# Altium schematic symbol library MCU_Microchip_PIC16.SchLib: 259 symbols (part 3 of 5)
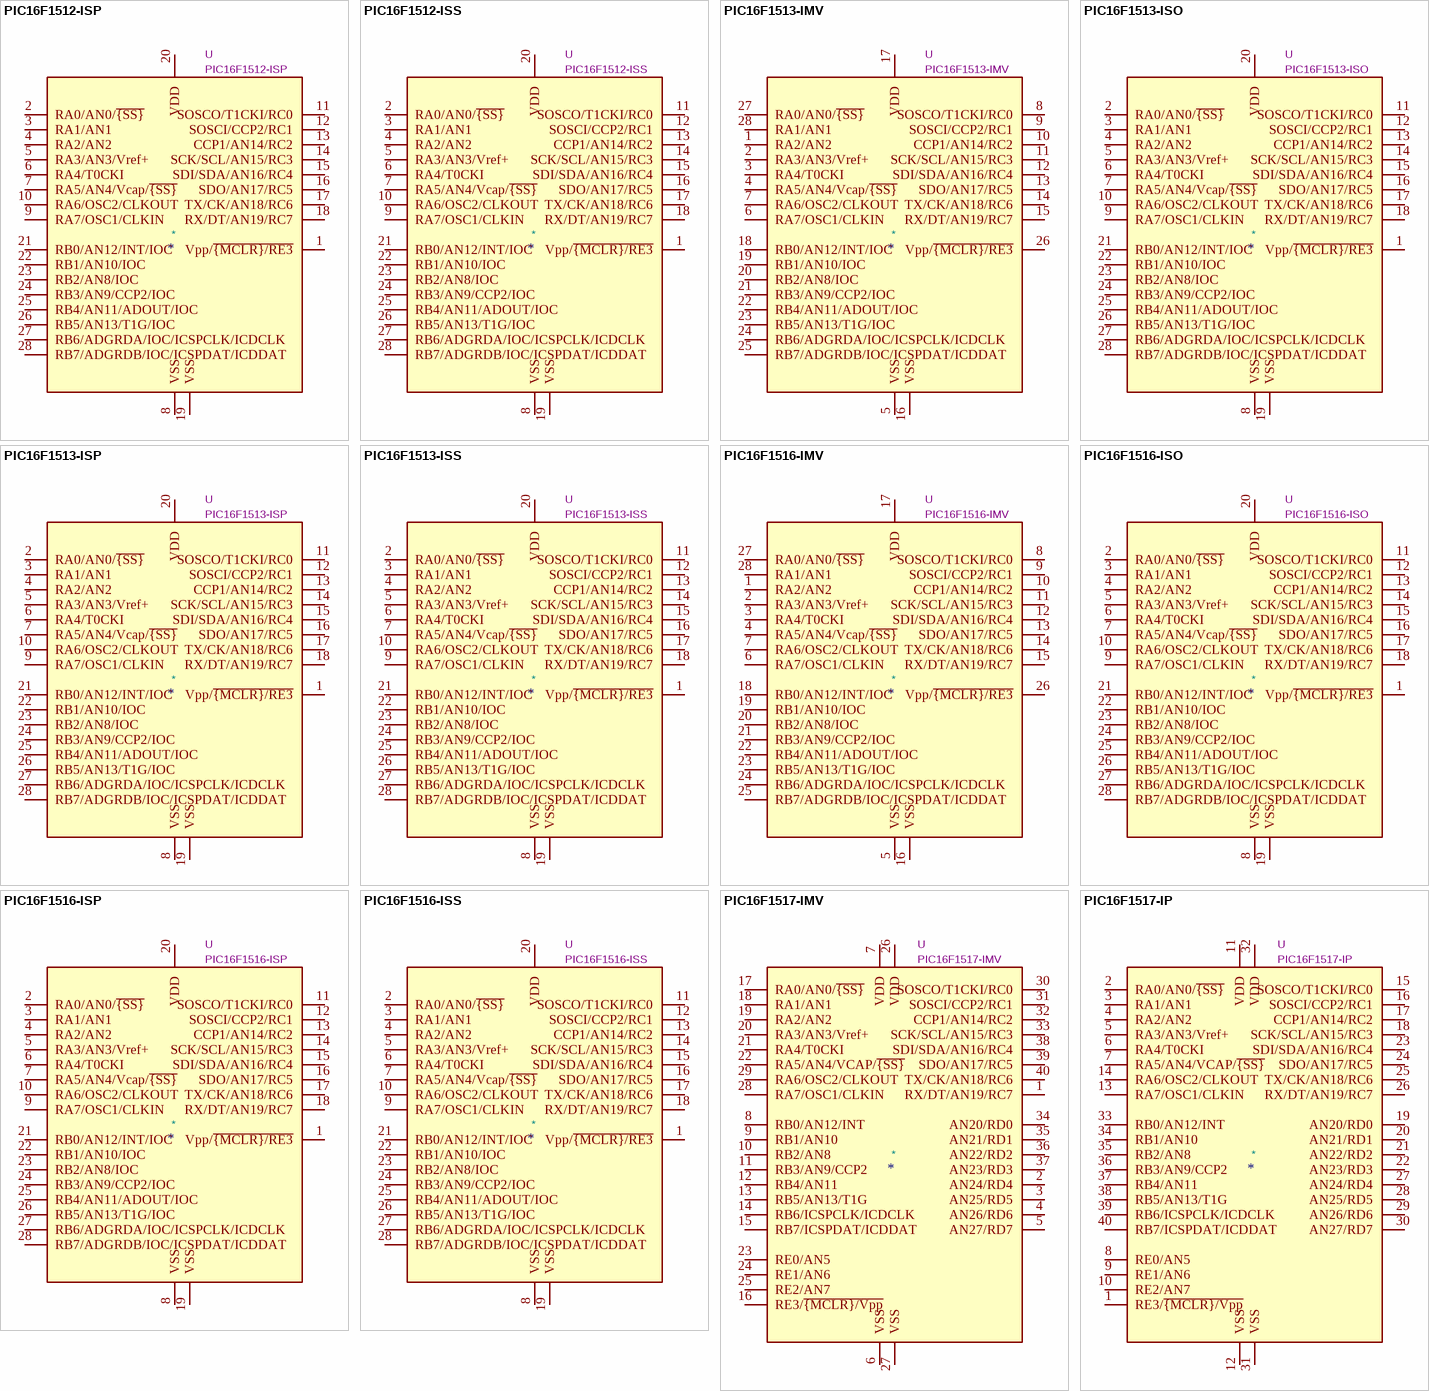
[diagram p21: symbols PIC16F1512-ISP to PIC16F1517-IP]

## PIC16F1516-ISS
designator *  value PIC16F1516-ISS  Reference: U
PIC16F1516, 8192W FLASH, 512B SRAM, SSOP-28; ki_keywords: FLASH-Based 8-Bit CMOS Microcontroller XLP; ki_fp_filters: DIP* PDIP* SO* SSOP*; Datasheet: http://ww1.microchip.com/downloads/en/DeviceDoc/41452B.pdf; Description_: PIC16F1516, 8192W FLASH, 512B SRAM, SSOP-28
pins: 1 Vpp/~{{MCLR}/RE3}, 2 RA0/AN0/~{{SS}}, 3 RA1/AN1, 4 RA2/AN2, 5 RA3/AN3/Vref+, 6 RA4/T0CKI, 7 RA5/AN4/Vcap/~{{SS}}, 8 VSS, 9 RA7/OSC1/CLKIN, 10 RA6/OSC2/CLKOUT, 11 SOSCO/T1CKI/RC0, 12 SOSCI/CCP2/RC1, 13 CCP1/AN14/RC2, 14 SCK/SCL/AN15/RC3, 15 SDI/SDA/AN16/RC4, 16 SDO/AN17/RC5, 17 TX/CK/AN18/RC6, 18 RX/DT/AN19/RC7, 19 VSS, 20 VDD, 21 RB0/AN12/INT/IOC, 22 RB1/AN10/IOC, 23 RB2/AN8/IOC, 24 RB3/AN9/CCP2/IOC, 25 RB4/AN11/ADOUT/IOC, 26 RB5/AN13/T1G/IOC, 27 RB6/ADGRDA/IOC/ICSPCLK/ICDCLK, 28 RB7/ADGRDB/IOC/ICSPDAT/ICDDAT

## PIC16F1517-IMV
designator *  value PIC16F1517-IMV  Reference: U
PIC16F1517, 8192W FLASH, 512B SRAM, UQFN-40; ki_keywords: FLASH-Based 8-Bit CMOS Microcontroller XLP; ki_fp_filters: UQFN*; Datasheet: http://ww1.microchip.com/downloads/en/DeviceDoc/41452B.pdf; Description_: PIC16F1517, 8192W FLASH, 512B SRAM, UQFN-40
pins: 1 RX/DT/AN19/RC7, 2 AN24/RD4, 3 AN25/RD5, 4 AN26/RD6, 5 AN27/RD7, 6 VSS, 7 VDD, 8 RB0/AN12/INT, 9 RB1/AN10, 10 RB2/AN8, 11 RB3/AN9/CCP2, 12 RB4/AN11, 13 RB5/AN13/T1G, 14 RB6/ICSPCLK/ICDCLK, 15 RB7/ICSPDAT/ICDDAT, 16 RE3/~{{MCLR}/Vpp}, 17 RA0/AN0/~{{SS}}, 18 RA1/AN1, 19 RA2/AN2, 20 RA3/AN3/Vref+, 21 RA4/T0CKI, 22 RA5/AN4/VCAP/~{{SS}}, 23 RE0/AN5, 24 RE1/AN6, 25 RE2/AN7, 26 VDD, 27 VSS, 28 RA7/OSC1/CLKIN, 29 RA6/OSC2/CLKOUT, 30 SOSCO/T1CKI/RC0, 31 SOSCI/CCP2/RC1, 32 CCP1/AN14/RC2, 33 SCK/SCL/AN15/RC3, 34 AN20/RD0, 35 AN21/RD1, 36 AN22/RD2, 37 AN23/RD3, 38 SDI/SDA/AN16/RC4, 39 SDO/AN17/RC5, 40 TX/CK/AN18/RC6

## PIC16F1517-IP
designator *  value PIC16F1517-IP  Reference: U
8192W FLASH, 512B SRAM, PDIP-40; ki_keywords: FLASH-Based 8-Bit CMOS Microcontroller XLP; ki_fp_filters: DIP* PDIP*; Datasheet: http://ww1.microchip.com/downloads/en/DeviceDoc/41452B.pdf; Description_: 8192W FLASH, 512B SRAM, PDIP-40
pins: 1 RE3/~{{MCLR}/Vpp}, 2 RA0/AN0/~{{SS}}, 3 RA1/AN1, 4 RA2/AN2, 5 RA3/AN3/Vref+, 6 RA4/T0CKI, 7 RA5/AN4/VCAP/~{{SS}}, 8 RE0/AN5, 9 RE1/AN6, 10 RE2/AN7, 11 VDD, 12 VSS, 13 RA7/OSC1/CLKIN, 14 RA6/OSC2/CLKOUT, 15 SOSCO/T1CKI/RC0, 16 SOSCI/CCP2/RC1, 17 CCP1/AN14/RC2, 18 SCK/SCL/AN15/RC3, 19 AN20/RD0, 20 AN21/RD1, 21 AN22/RD2, 22 AN23/RD3, 23 SDI/SDA/AN16/RC4, 24 SDO/AN17/RC5, 25 TX/CK/AN18/RC6, 26 RX/DT/AN19/RC7, 27 AN24/RD4, 28 AN25/RD5, 29 AN26/RD6, 30 AN27/RD7, 31 VSS, 32 VDD, 33 RB0/AN12/INT, 34 RB1/AN10, 35 RB2/AN8, 36 RB3/AN9/CCP2, 37 RB4/AN11, 38 RB5/AN13/T1G, 39 RB6/ICSPCLK/ICDCLK, 40 RB7/ICSPDAT/ICDDAT

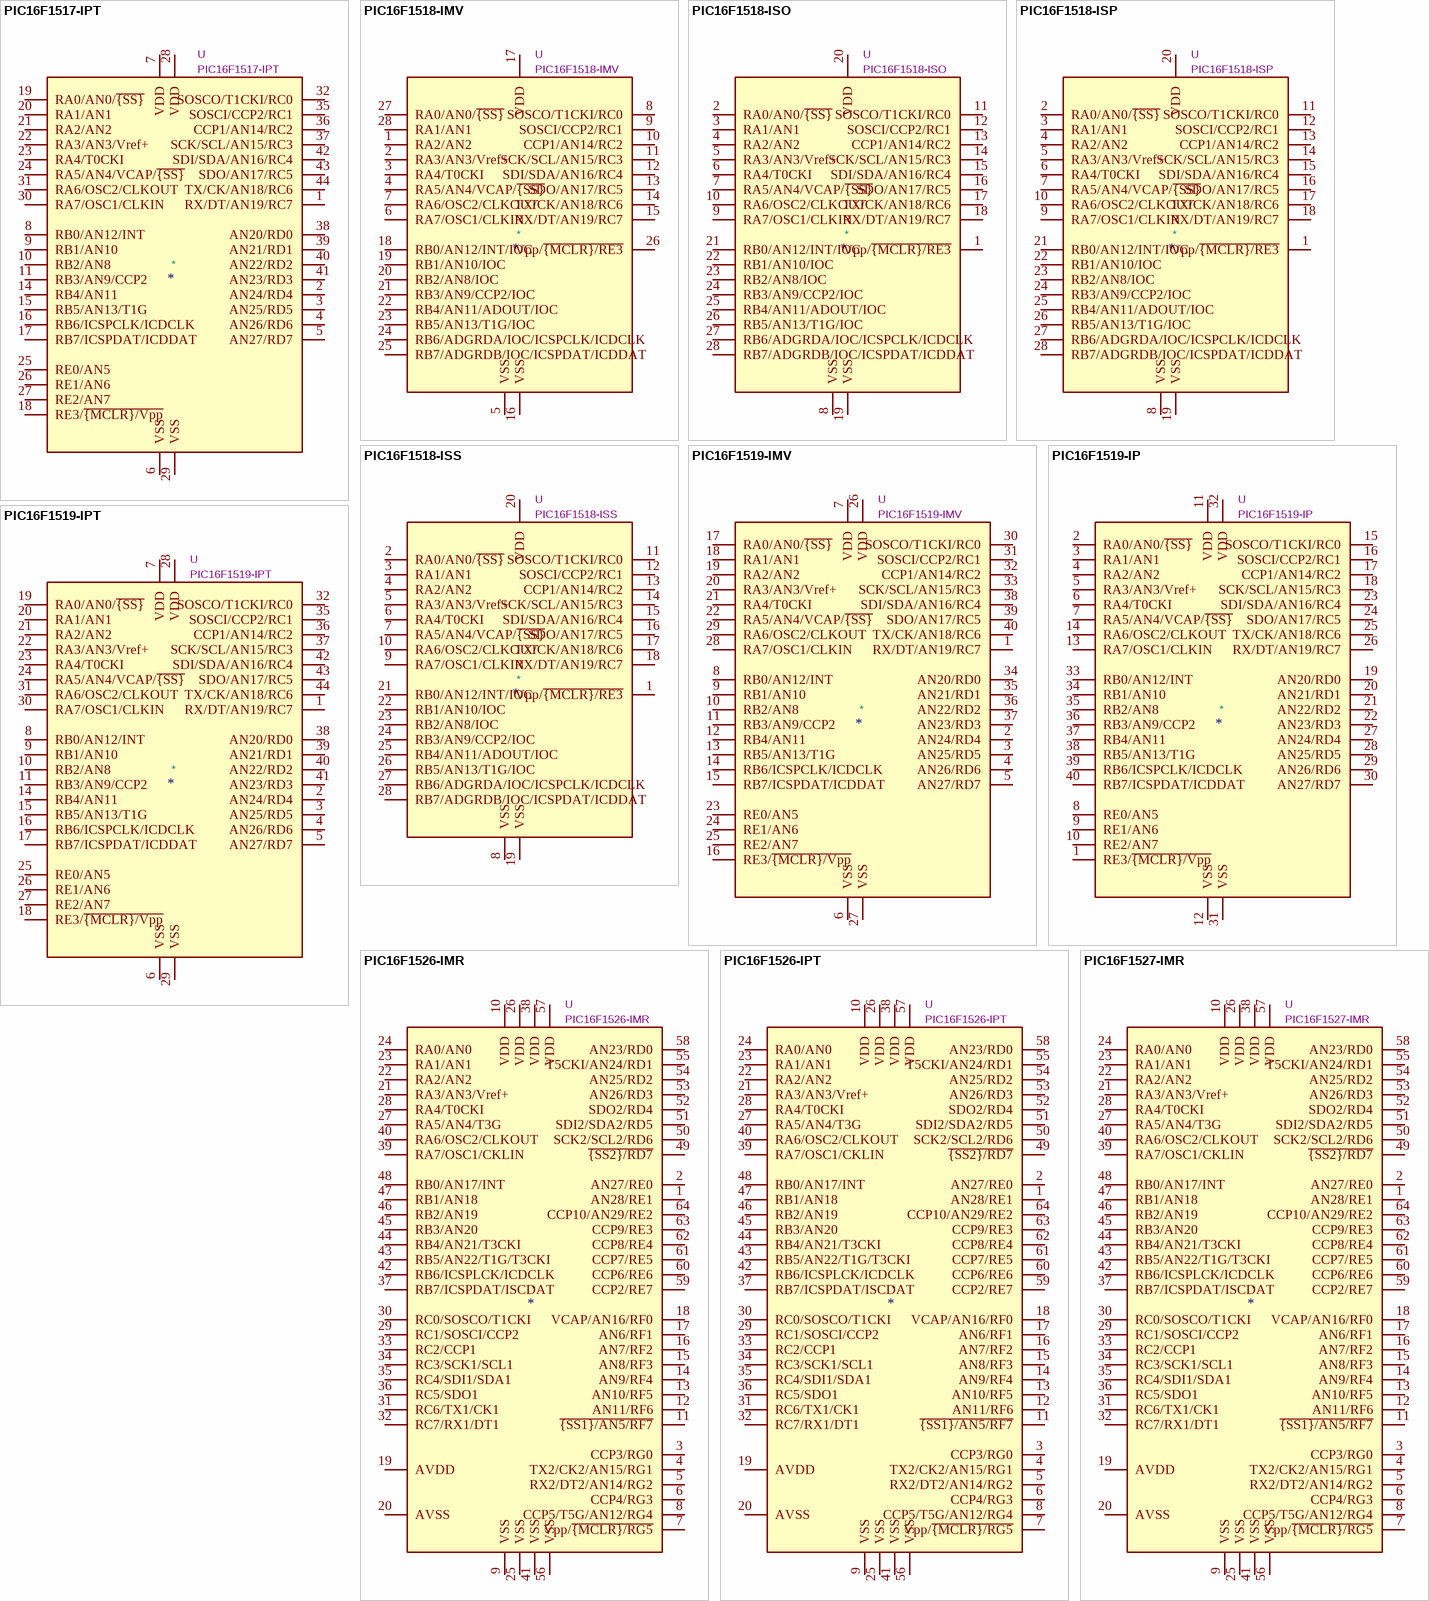
[diagram p11: symbols PIC16F1517-IPT to PIC16F1527-IMR]

## PIC16F1517-IPT
designator *  value PIC16F1517-IPT  Reference: U
PIC16F1517, 8192W FLASH, 512B SRAM, TQFP-40; ki_keywords: FLASH-Based 8-Bit CMOS Microcontroller XLP; ki_fp_filters: TQFP*; Datasheet: http://ww1.microchip.com/downloads/en/DeviceDoc/41452B.pdf; Description_: PIC16F1517, 8192W FLASH, 512B SRAM, TQFP-40
pins: 1 RX/DT/AN19/RC7, 2 AN24/RD4, 3 AN25/RD5, 4 AN26/RD6, 5 AN27/RD7, 6 VSS, 7 VDD, 8 RB0/AN12/INT, 9 RB1/AN10, 10 RB2/AN8, 11 RB3/AN9/CCP2, 14 RB4/AN11, 15 RB5/AN13/T1G, 16 RB6/ICSPCLK/ICDCLK, 17 RB7/ICSPDAT/ICDDAT, 18 RE3/~{{MCLR}/Vpp}, 19 RA0/AN0/~{{SS}}, 20 RA1/AN1, 21 RA2/AN2, 22 RA3/AN3/Vref+, 23 RA4/T0CKI, 24 RA5/AN4/VCAP/~{{SS}}, 25 RE0/AN5, 26 RE1/AN6, 27 RE2/AN7, 28 VDD, 29 VSS, 30 RA7/OSC1/CLKIN, 31 RA6/OSC2/CLKOUT, 32 SOSCO/T1CKI/RC0, 35 SOSCI/CCP2/RC1, 36 CCP1/AN14/RC2, 37 SCK/SCL/AN15/RC3, 38 AN20/RD0, 39 AN21/RD1, 40 AN22/RD2, 41 AN23/RD3, 42 SDI/SDA/AN16/RC4, 43 SDO/AN17/RC5, 44 TX/CK/AN18/RC6

## PIC16F1518-IMV
designator *  value PIC16F1518-IMV  Reference: U
PIC16F1518, 16384W FLASH, 1204B SRAM, UQFN-28; ki_keywords: FLASH-Based 8-Bit CMOS Microcontroller XLP; ki_fp_filters: UQFN*; Datasheet: http://ww1.microchip.com/downloads/en/DeviceDoc/41452B.pdf; Description_: PIC16F1518, 16384W FLASH, 1204B SRAM, UQFN-28
pins: 1 RA2/AN2, 2 RA3/AN3/Vref+, 3 RA4/T0CKI, 4 RA5/AN4/VCAP/~{{SS}}, 5 VSS, 6 RA7/OSC1/CLKIN, 7 RA6/OSC2/CLKOUT, 8 SOSCO/T1CKI/RC0, 9 SOSCI/CCP2/RC1, 10 CCP1/AN14/RC2, 11 SCK/SCL/AN15/RC3, 12 SDI/SDA/AN16/RC4, 13 SDO/AN17/RC5, 14 TX/CK/AN18/RC6, 15 RX/DT/AN19/RC7, 16 VSS, 17 VDD, 18 RB0/AN12/INT/IOC, 19 RB1/AN10/IOC, 20 RB2/AN8/IOC, 21 RB3/AN9/CCP2/IOC, 22 RB4/AN11/ADOUT/IOC, 23 RB5/AN13/T1G/IOC, 24 RB6/ADGRDA/IOC/ICSPCLK/ICDCLK, 25 RB7/ADGRDB/IOC/ICSPDAT/ICDDAT, 26 Vpp/~{{MCLR}/RE3}, 27 RA0/AN0/~{{SS}}, 28 RA1/AN1

## PIC16F1518-ISO
designator *  value PIC16F1518-ISO  Reference: U
PIC16F1518, 16384W FLASH, 1024B SRAM, SO-28; ki_keywords: FLASH-Based 8-Bit CMOS Microcontroller XLP; ki_fp_filters: DIP* PDIP* SO* SSOP*; Datasheet: http://ww1.microchip.com/downloads/en/DeviceDoc/41452B.pdf; Description_: PIC16F1518, 16384W FLASH, 1024B SRAM, SO-28
pins: 1 Vpp/~{{MCLR}/RE3}, 2 RA0/AN0/~{{SS}}, 3 RA1/AN1, 4 RA2/AN2, 5 RA3/AN3/Vref+, 6 RA4/T0CKI, 7 RA5/AN4/VCAP/~{{SS}}, 8 VSS, 9 RA7/OSC1/CLKIN, 10 RA6/OSC2/CLKOUT, 11 SOSCO/T1CKI/RC0, 12 SOSCI/CCP2/RC1, 13 CCP1/AN14/RC2, 14 SCK/SCL/AN15/RC3, 15 SDI/SDA/AN16/RC4, 16 SDO/AN17/RC5, 17 TX/CK/AN18/RC6, 18 RX/DT/AN19/RC7, 19 VSS, 20 VDD, 21 RB0/AN12/INT/IOC, 22 RB1/AN10/IOC, 23 RB2/AN8/IOC, 24 RB3/AN9/CCP2/IOC, 25 RB4/AN11/ADOUT/IOC, 26 RB5/AN13/T1G/IOC, 27 RB6/ADGRDA/IOC/ICSPCLK/ICDCLK, 28 RB7/ADGRDB/IOC/ICSPDAT/ICDDAT

## PIC16F1518-ISP
designator *  value PIC16F1518-ISP  Reference: U
PIC16F1518, 16384W FLASH, 1024B SRAM, SPDIP-28; ki_keywords: FLASH-Based 8-Bit CMOS Microcontroller XLP; ki_fp_filters: DIP* PDIP* SO* SSOP*; Datasheet: http://ww1.microchip.com/downloads/en/DeviceDoc/41452B.pdf; Description_: PIC16F1518, 16384W FLASH, 1024B SRAM, SPDIP-28
pins: 1 Vpp/~{{MCLR}/RE3}, 2 RA0/AN0/~{{SS}}, 3 RA1/AN1, 4 RA2/AN2, 5 RA3/AN3/Vref+, 6 RA4/T0CKI, 7 RA5/AN4/VCAP/~{{SS}}, 8 VSS, 9 RA7/OSC1/CLKIN, 10 RA6/OSC2/CLKOUT, 11 SOSCO/T1CKI/RC0, 12 SOSCI/CCP2/RC1, 13 CCP1/AN14/RC2, 14 SCK/SCL/AN15/RC3, 15 SDI/SDA/AN16/RC4, 16 SDO/AN17/RC5, 17 TX/CK/AN18/RC6, 18 RX/DT/AN19/RC7, 19 VSS, 20 VDD, 21 RB0/AN12/INT/IOC, 22 RB1/AN10/IOC, 23 RB2/AN8/IOC, 24 RB3/AN9/CCP2/IOC, 25 RB4/AN11/ADOUT/IOC, 26 RB5/AN13/T1G/IOC, 27 RB6/ADGRDA/IOC/ICSPCLK/ICDCLK, 28 RB7/ADGRDB/IOC/ICSPDAT/ICDDAT

## PIC16F1518-ISS
designator *  value PIC16F1518-ISS  Reference: U
PIC16F1518, 16384W FLASH, 1024B SRAM, SSOP-28; ki_keywords: FLASH-Based 8-Bit CMOS Microcontroller XLP; ki_fp_filters: DIP* PDIP* SO* SSOP*; Datasheet: http://ww1.microchip.com/downloads/en/DeviceDoc/41452B.pdf; Description_: PIC16F1518, 16384W FLASH, 1024B SRAM, SSOP-28
pins: 1 Vpp/~{{MCLR}/RE3}, 2 RA0/AN0/~{{SS}}, 3 RA1/AN1, 4 RA2/AN2, 5 RA3/AN3/Vref+, 6 RA4/T0CKI, 7 RA5/AN4/VCAP/~{{SS}}, 8 VSS, 9 RA7/OSC1/CLKIN, 10 RA6/OSC2/CLKOUT, 11 SOSCO/T1CKI/RC0, 12 SOSCI/CCP2/RC1, 13 CCP1/AN14/RC2, 14 SCK/SCL/AN15/RC3, 15 SDI/SDA/AN16/RC4, 16 SDO/AN17/RC5, 17 TX/CK/AN18/RC6, 18 RX/DT/AN19/RC7, 19 VSS, 20 VDD, 21 RB0/AN12/INT/IOC, 22 RB1/AN10/IOC, 23 RB2/AN8/IOC, 24 RB3/AN9/CCP2/IOC, 25 RB4/AN11/ADOUT/IOC, 26 RB5/AN13/T1G/IOC, 27 RB6/ADGRDA/IOC/ICSPCLK/ICDCLK, 28 RB7/ADGRDB/IOC/ICSPDAT/ICDDAT

## PIC16F1519-IMV
designator *  value PIC16F1519-IMV  Reference: U
PIC16F1519, 16384W FLASH, 1024B SRAM, UQFN-40; ki_keywords: FLASH-Based 8-Bit CMOS Microcontroller XLP; ki_fp_filters: UQFN*; Datasheet: http://ww1.microchip.com/downloads/en/DeviceDoc/41452B.pdf; Description_: PIC16F1519, 16384W FLASH, 1024B SRAM, UQFN-40
pins: 1 RX/DT/AN19/RC7, 2 AN24/RD4, 3 AN25/RD5, 4 AN26/RD6, 5 AN27/RD7, 6 VSS, 7 VDD, 8 RB0/AN12/INT, 9 RB1/AN10, 10 RB2/AN8, 11 RB3/AN9/CCP2, 12 RB4/AN11, 13 RB5/AN13/T1G, 14 RB6/ICSPCLK/ICDCLK, 15 RB7/ICSPDAT/ICDDAT, 16 RE3/~{{MCLR}/Vpp}, 17 RA0/AN0/~{{SS}}, 18 RA1/AN1, 19 RA2/AN2, 20 RA3/AN3/Vref+, 21 RA4/T0CKI, 22 RA5/AN4/VCAP/~{{SS}}, 23 RE0/AN5, 24 RE1/AN6, 25 RE2/AN7, 26 VDD, 27 VSS, 28 RA7/OSC1/CLKIN, 29 RA6/OSC2/CLKOUT, 30 SOSCO/T1CKI/RC0, 31 SOSCI/CCP2/RC1, 32 CCP1/AN14/RC2, 33 SCK/SCL/AN15/RC3, 34 AN20/RD0, 35 AN21/RD1, 36 AN22/RD2, 37 AN23/RD3, 38 SDI/SDA/AN16/RC4, 39 SDO/AN17/RC5, 40 TX/CK/AN18/RC6

## PIC16F1519-IP
designator *  value PIC16F1519-IP  Reference: U
16384W FLASH, 1024B SRAM, PDIP-40; ki_keywords: FLASH-Based 8-Bit CMOS Microcontroller XLP; ki_fp_filters: DIP* PDIP*; Datasheet: http://ww1.microchip.com/downloads/en/DeviceDoc/41452B.pdf; Description_: 16384W FLASH, 1024B SRAM, PDIP-40
pins: 1 RE3/~{{MCLR}/Vpp}, 2 RA0/AN0/~{{SS}}, 3 RA1/AN1, 4 RA2/AN2, 5 RA3/AN3/Vref+, 6 RA4/T0CKI, 7 RA5/AN4/VCAP/~{{SS}}, 8 RE0/AN5, 9 RE1/AN6, 10 RE2/AN7, 11 VDD, 12 VSS, 13 RA7/OSC1/CLKIN, 14 RA6/OSC2/CLKOUT, 15 SOSCO/T1CKI/RC0, 16 SOSCI/CCP2/RC1, 17 CCP1/AN14/RC2, 18 SCK/SCL/AN15/RC3, 19 AN20/RD0, 20 AN21/RD1, 21 AN22/RD2, 22 AN23/RD3, 23 SDI/SDA/AN16/RC4, 24 SDO/AN17/RC5, 25 TX/CK/AN18/RC6, 26 RX/DT/AN19/RC7, 27 AN24/RD4, 28 AN25/RD5, 29 AN26/RD6, 30 AN27/RD7, 31 VSS, 32 VDD, 33 RB0/AN12/INT, 34 RB1/AN10, 35 RB2/AN8, 36 RB3/AN9/CCP2, 37 RB4/AN11, 38 RB5/AN13/T1G, 39 RB6/ICSPCLK/ICDCLK, 40 RB7/ICSPDAT/ICDDAT

## PIC16F1519-IPT
designator *  value PIC16F1519-IPT  Reference: U
PIC16F1519, 16384W FLASH, 1024B SRAM, TQFP-40; ki_keywords: FLASH-Based 8-Bit CMOS Microcontroller XLP; ki_fp_filters: TQFP*; Datasheet: http://ww1.microchip.com/downloads/en/DeviceDoc/41452B.pdf; Description_: PIC16F1519, 16384W FLASH, 1024B SRAM, TQFP-40
pins: 1 RX/DT/AN19/RC7, 2 AN24/RD4, 3 AN25/RD5, 4 AN26/RD6, 5 AN27/RD7, 6 VSS, 7 VDD, 8 RB0/AN12/INT, 9 RB1/AN10, 10 RB2/AN8, 11 RB3/AN9/CCP2, 14 RB4/AN11, 15 RB5/AN13/T1G, 16 RB6/ICSPCLK/ICDCLK, 17 RB7/ICSPDAT/ICDDAT, 18 RE3/~{{MCLR}/Vpp}, 19 RA0/AN0/~{{SS}}, 20 RA1/AN1, 21 RA2/AN2, 22 RA3/AN3/Vref+, 23 RA4/T0CKI, 24 RA5/AN4/VCAP/~{{SS}}, 25 RE0/AN5, 26 RE1/AN6, 27 RE2/AN7, 28 VDD, 29 VSS, 30 RA7/OSC1/CLKIN, 31 RA6/OSC2/CLKOUT, 32 SOSCO/T1CKI/RC0, 35 SOSCI/CCP2/RC1, 36 CCP1/AN14/RC2, 37 SCK/SCL/AN15/RC3, 38 AN20/RD0, 39 AN21/RD1, 40 AN22/RD2, 41 AN23/RD3, 42 SDI/SDA/AN16/RC4, 43 SDO/AN17/RC5, 44 TX/CK/AN18/RC6

## PIC16F1526-IMR
designator *  value PIC16F1526-IMR  Reference: U
PIC16F1526, 8192W FLASH, 768B SRAM, UQFN-64; ki_keywords: FLASH-Based 8-Bit CMOS Microcontroller XLP; ki_fp_filters: TQFP* QFN*; Datasheet: http://ww1.microchip.com/downloads/en/DeviceDoc/41458B.pdf; Description_: PIC16F1526, 8192W FLASH, 768B SRAM, UQFN-64
pins: 1 AN28/RE1, 2 AN27/RE0, 3 CCP3/RG0, 4 TX2/CK2/AN15/RG1, 5 RX2/DT2/AN14/RG2, 6 CCP4/RG3, 7 Vpp/~{{MCLR}/RG5}, 8 CCP5/T5G/AN12/RG4, 9 VSS, 10 VDD, 11 ~{{SS1}/AN5/RF7}, 12 AN11/RF6, 13 AN10/RF5, 14 AN9/RF4, 15 AN8/RF3, 16 AN7/RF2, 17 AN6/RF1, 18 VCAP/AN16/RF0, 19 AVDD, 20 AVSS, 21 RA3/AN3/Vref+, 22 RA2/AN2, 23 RA1/AN1, 24 RA0/AN0, 25 VSS, 26 VDD, 27 RA5/AN4/T3G, 28 RA4/T0CKI, 29 RC1/SOSCI/CCP2, 30 RC0/SOSCO/T1CKI, 31 RC6/TX1/CK1, 32 RC7/RX1/DT1, 33 RC2/CCP1, 34 RC3/SCK1/SCL1, 35 RC4/SDI1/SDA1, 36 RC5/SDO1, 37 RB7/ICSPDAT/ISCDAT, 38 VDD, 39 RA7/OSC1/CKLIN, 40 RA6/OSC2/CLKOUT, 41 VSS, 42 RB6/ICSPLCK/ICDCLK, 43 RB5/AN22/T1G/T3CKI, 44 RB4/AN21/T3CKI, 45 RB3/AN20, 46 RB2/AN19, 47 RB1/AN18, 48 RB0/AN17/INT, 49 ~{{SS2}/RD7}, 50 SCK2/SCL2/RD6, 51 SDI2/SDA2/RD5, 52 SDO2/RD4, 53 AN26/RD3, 54 AN25/RD2, 55 T5CKI/AN24/RD1, 56 VSS, 57 VDD, 58 AN23/RD0, 59 CCP2/RE7, 60 CCP6/RE6, 61 CCP7/RE5, 62 CCP8/RE4, 63 CCP9/RE3, 64 CCP10/AN29/RE2

## PIC16F1526-IPT
designator *  value PIC16F1526-IPT  Reference: U
PIC16F1526, 8192W FLASH, 768B SRAM, TQFP-64; ki_keywords: FLASH-Based 8-Bit CMOS Microcontroller XLP; ki_fp_filters: TQFP* QFN*; Datasheet: http://ww1.microchip.com/downloads/en/DeviceDoc/41458B.pdf; Description_: PIC16F1526, 8192W FLASH, 768B SRAM, TQFP-64
pins: 1 AN28/RE1, 2 AN27/RE0, 3 CCP3/RG0, 4 TX2/CK2/AN15/RG1, 5 RX2/DT2/AN14/RG2, 6 CCP4/RG3, 7 Vpp/~{{MCLR}/RG5}, 8 CCP5/T5G/AN12/RG4, 9 VSS, 10 VDD, 11 ~{{SS1}/AN5/RF7}, 12 AN11/RF6, 13 AN10/RF5, 14 AN9/RF4, 15 AN8/RF3, 16 AN7/RF2, 17 AN6/RF1, 18 VCAP/AN16/RF0, 19 AVDD, 20 AVSS, 21 RA3/AN3/Vref+, 22 RA2/AN2, 23 RA1/AN1, 24 RA0/AN0, 25 VSS, 26 VDD, 27 RA5/AN4/T3G, 28 RA4/T0CKI, 29 RC1/SOSCI/CCP2, 30 RC0/SOSCO/T1CKI, 31 RC6/TX1/CK1, 32 RC7/RX1/DT1, 33 RC2/CCP1, 34 RC3/SCK1/SCL1, 35 RC4/SDI1/SDA1, 36 RC5/SDO1, 37 RB7/ICSPDAT/ISCDAT, 38 VDD, 39 RA7/OSC1/CKLIN, 40 RA6/OSC2/CLKOUT, 41 VSS, 42 RB6/ICSPLCK/ICDCLK, 43 RB5/AN22/T1G/T3CKI, 44 RB4/AN21/T3CKI, 45 RB3/AN20, 46 RB2/AN19, 47 RB1/AN18, 48 RB0/AN17/INT, 49 ~{{SS2}/RD7}, 50 SCK2/SCL2/RD6, 51 SDI2/SDA2/RD5, 52 SDO2/RD4, 53 AN26/RD3, 54 AN25/RD2, 55 T5CKI/AN24/RD1, 56 VSS, 57 VDD, 58 AN23/RD0, 59 CCP2/RE7, 60 CCP6/RE6, 61 CCP7/RE5, 62 CCP8/RE4, 63 CCP9/RE3, 64 CCP10/AN29/RE2

## PIC16F1527-IMR
designator *  value PIC16F1527-IMR  Reference: U
PIC16F1527, 16384W FLASH, 1536B SRAM, UQFN-64; ki_keywords: FLASH-Based 8-Bit CMOS Microcontroller XLP; ki_fp_filters: TQFP* QFN*; Datasheet: http://ww1.microchip.com/downloads/en/DeviceDoc/41458B.pdf; Description_: PIC16F1527, 16384W FLASH, 1536B SRAM, UQFN-64
pins: 1 AN28/RE1, 2 AN27/RE0, 3 CCP3/RG0, 4 TX2/CK2/AN15/RG1, 5 RX2/DT2/AN14/RG2, 6 CCP4/RG3, 7 Vpp/~{{MCLR}/RG5}, 8 CCP5/T5G/AN12/RG4, 9 VSS, 10 VDD, 11 ~{{SS1}/AN5/RF7}, 12 AN11/RF6, 13 AN10/RF5, 14 AN9/RF4, 15 AN8/RF3, 16 AN7/RF2, 17 AN6/RF1, 18 VCAP/AN16/RF0, 19 AVDD, 20 AVSS, 21 RA3/AN3/Vref+, 22 RA2/AN2, 23 RA1/AN1, 24 RA0/AN0, 25 VSS, 26 VDD, 27 RA5/AN4/T3G, 28 RA4/T0CKI, 29 RC1/SOSCI/CCP2, 30 RC0/SOSCO/T1CKI, 31 RC6/TX1/CK1, 32 RC7/RX1/DT1, 33 RC2/CCP1, 34 RC3/SCK1/SCL1, 35 RC4/SDI1/SDA1, 36 RC5/SDO1, 37 RB7/ICSPDAT/ISCDAT, 38 VDD, 39 RA7/OSC1/CKLIN, 40 RA6/OSC2/CLKOUT, 41 VSS, 42 RB6/ICSPLCK/ICDCLK, 43 RB5/AN22/T1G/T3CKI, 44 RB4/AN21/T3CKI, 45 RB3/AN20, 46 RB2/AN19, 47 RB1/AN18, 48 RB0/AN17/INT, 49 ~{{SS2}/RD7}, 50 SCK2/SCL2/RD6, 51 SDI2/SDA2/RD5, 52 SDO2/RD4, 53 AN26/RD3, 54 AN25/RD2, 55 T5CKI/AN24/RD1, 56 VSS, 57 VDD, 58 AN23/RD0, 59 CCP2/RE7, 60 CCP6/RE6, 61 CCP7/RE5, 62 CCP8/RE4, 63 CCP9/RE3, 64 CCP10/AN29/RE2

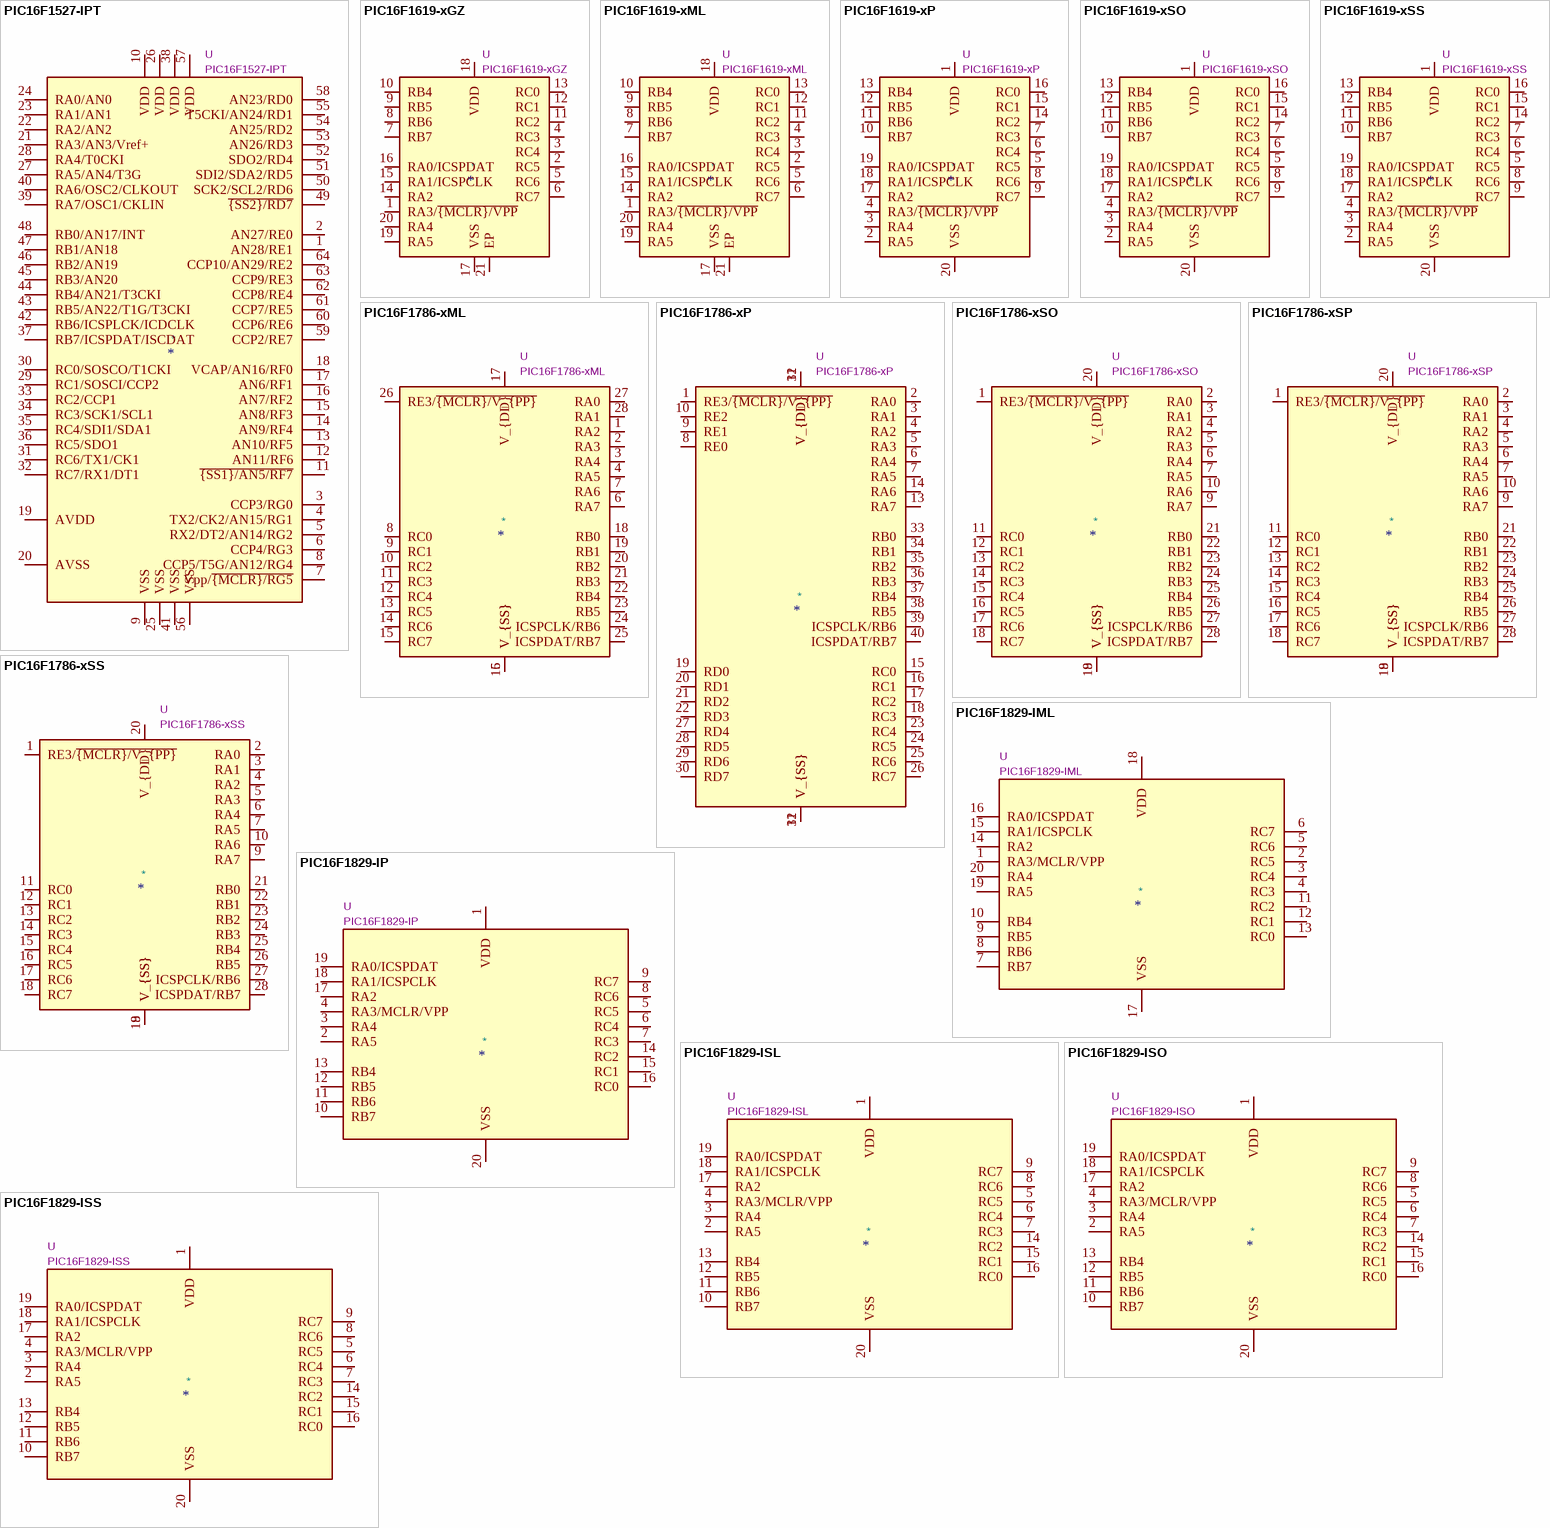
[diagram p12: symbols PIC16F1527-IPT to PIC16F1829-ISS]

## PIC16F1527-IPT
designator *  value PIC16F1527-IPT  Reference: U
PIC16F1527, 16384W FLASH, 1536B SRAM, TQFP-64; ki_keywords: FLASH-Based 8-Bit CMOS Microcontroller XLP; ki_fp_filters: TQFP* QFN*; Datasheet: http://ww1.microchip.com/downloads/en/DeviceDoc/41458B.pdf; Description_: PIC16F1527, 16384W FLASH, 1536B SRAM, TQFP-64
pins: 1 AN28/RE1, 2 AN27/RE0, 3 CCP3/RG0, 4 TX2/CK2/AN15/RG1, 5 RX2/DT2/AN14/RG2, 6 CCP4/RG3, 7 Vpp/~{{MCLR}/RG5}, 8 CCP5/T5G/AN12/RG4, 9 VSS, 10 VDD, 11 ~{{SS1}/AN5/RF7}, 12 AN11/RF6, 13 AN10/RF5, 14 AN9/RF4, 15 AN8/RF3, 16 AN7/RF2, 17 AN6/RF1, 18 VCAP/AN16/RF0, 19 AVDD, 20 AVSS, 21 RA3/AN3/Vref+, 22 RA2/AN2, 23 RA1/AN1, 24 RA0/AN0, 25 VSS, 26 VDD, 27 RA5/AN4/T3G, 28 RA4/T0CKI, 29 RC1/SOSCI/CCP2, 30 RC0/SOSCO/T1CKI, 31 RC6/TX1/CK1, 32 RC7/RX1/DT1, 33 RC2/CCP1, 34 RC3/SCK1/SCL1, 35 RC4/SDI1/SDA1, 36 RC5/SDO1, 37 RB7/ICSPDAT/ISCDAT, 38 VDD, 39 RA7/OSC1/CKLIN, 40 RA6/OSC2/CLKOUT, 41 VSS, 42 RB6/ICSPLCK/ICDCLK, 43 RB5/AN22/T1G/T3CKI, 44 RB4/AN21/T3CKI, 45 RB3/AN20, 46 RB2/AN19, 47 RB1/AN18, 48 RB0/AN17/INT, 49 ~{{SS2}/RD7}, 50 SCK2/SCL2/RD6, 51 SDI2/SDA2/RD5, 52 SDO2/RD4, 53 AN26/RD3, 54 AN25/RD2, 55 T5CKI/AN24/RD1, 56 VSS, 57 VDD, 58 AN23/RD0, 59 CCP2/RE7, 60 CCP6/RE6, 61 CCP7/RE5, 62 CCP8/RE4, 63 CCP9/RE3, 64 CCP10/AN29/RE2

## PIC16F1619-xGZ
designator *  value PIC16F1619-xGZ  Reference: U
8-bit Flash MCU, 32MHz, 14KB Flash, 1KB RAM, 1K High Endurance Flash (EEPROM), UQFN-20; ki_keywords: Flash-Based 8-Bit CMOS Microcontroller Low Power; ki_fp_filters: UQFN*1EP*4x4mm*P0.5mm*; Footprint: Package_DFN_QFN:UQFN-20-1EP_4x4mm_P0.5mm_EP2.8x2.8mm; Datasheet: http://ww1.microchip.com/downloads/en/DeviceDoc/40001770D.pdf; Description_: 8-bit Flash MCU, 32MHz, 14KB Flash, 1KB RAM, 1K High Endurance Flash (EEPROM), UQFN-20
pins: 1 RA3/~{{MCLR}/VPP}, 2 RC5, 3 RC4, 4 RC3, 5 RC6, 6 RC7, 7 RB7, 8 RB6, 9 RB5, 10 RB4, 11 RC2, 12 RC1, 13 RC0, 14 RA2, 15 RA1/ICSPCLK, 16 RA0/ICSPDAT, 17 VSS, 18 VDD, 19 RA5, 20 RA4, 21 EP

## PIC16F1619-xML
designator *  value PIC16F1619-xML  Reference: U
8-bit Flash MCU, 32MHz, 14KB Flash, 1KB RAM, 1K High Endurance Flash (EEPROM), QFN-20; ki_keywords: Flash-Based 8-Bit CMOS Microcontroller Low Power; ki_fp_filters: QFN*1EP*4x4mm*P0.5mm*; Footprint: Package_DFN_QFN:QFN-20-1EP_4x4mm_P0.5mm_EP2.5x2.5mm; Datasheet: http://ww1.microchip.com/downloads/en/DeviceDoc/40001770D.pdf; Description_: 8-bit Flash MCU, 32MHz, 14KB Flash, 1KB RAM, 1K High Endurance Flash (EEPROM), QFN-20
pins: 1 RA3/~{{MCLR}/VPP}, 2 RC5, 3 RC4, 4 RC3, 5 RC6, 6 RC7, 7 RB7, 8 RB6, 9 RB5, 10 RB4, 11 RC2, 12 RC1, 13 RC0, 14 RA2, 15 RA1/ICSPCLK, 16 RA0/ICSPDAT, 17 VSS, 18 VDD, 19 RA5, 20 RA4, 21 EP

## PIC16F1619-xP
designator *  value PIC16F1619-xP  Reference: U
8-bit Flash MCU, 32MHz, 14KB Flash, 1KB RAM, 1K High Endurance Flash (EEPROM), PDIP-20; ki_keywords: Flash-Based 8-Bit CMOS Microcontroller Low Power; ki_fp_filters: DIP*W7.62mm*; Footprint: Package_DIP:DIP-20_W7.62mm; Datasheet: http://ww1.microchip.com/downloads/en/DeviceDoc/40001770D.pdf; Description_: 8-bit Flash MCU, 32MHz, 14KB Flash, 1KB RAM, 1K High Endurance Flash (EEPROM), PDIP-20
pins: 1 VDD, 2 RA5, 3 RA4, 4 RA3/~{{MCLR}/VPP}, 5 RC5, 6 RC4, 7 RC3, 8 RC6, 9 RC7, 10 RB7, 11 RB6, 12 RB5, 13 RB4, 14 RC2, 15 RC1, 16 RC0, 17 RA2, 18 RA1/ICSPCLK, 19 RA0/ICSPDAT, 20 VSS

## PIC16F1619-xSO
designator *  value PIC16F1619-xSO  Reference: U
8-bit Flash MCU, 32MHz, 14KB Flash, 1KB RAM, 1K High Endurance Flash (EEPROM), SOIC-20; ki_keywords: Flash-Based 8-Bit CMOS Microcontroller Low Power; ki_fp_filters: SOIC*7.5x12.8mm*P1.27mm*; Footprint: Package_SO:SOIC-20W_7.5x12.8mm_P1.27mm; Datasheet: http://ww1.microchip.com/downloads/en/DeviceDoc/40001770D.pdf; Description_: 8-bit Flash MCU, 32MHz, 14KB Flash, 1KB RAM, 1K High Endurance Flash (EEPROM), SOIC-20
pins: 1 VDD, 2 RA5, 3 RA4, 4 RA3/~{{MCLR}/VPP}, 5 RC5, 6 RC4, 7 RC3, 8 RC6, 9 RC7, 10 RB7, 11 RB6, 12 RB5, 13 RB4, 14 RC2, 15 RC1, 16 RC0, 17 RA2, 18 RA1/ICSPCLK, 19 RA0/ICSPDAT, 20 VSS

## PIC16F1619-xSS
designator *  value PIC16F1619-xSS  Reference: U
8-bit Flash MCU, 32MHz, 14KB Flash, 1KB RAM, 1K High Endurance Flash (EEPROM), SSOP-20; ki_keywords: Flash-Based 8-Bit CMOS Microcontroller Low Power; ki_fp_filters: SSOP*5.3x7.2mm*P0.65mm*; Footprint: Package_SO:SSOP-20_5.3x7.2mm_P0.65mm; Datasheet: http://ww1.microchip.com/downloads/en/DeviceDoc/40001770D.pdf; Description_: 8-bit Flash MCU, 32MHz, 14KB Flash, 1KB RAM, 1K High Endurance Flash (EEPROM), SSOP-20
pins: 1 VDD, 2 RA5, 3 RA4, 4 RA3/~{{MCLR}/VPP}, 5 RC5, 6 RC4, 7 RC3, 8 RC6, 9 RC7, 10 RB7, 11 RB6, 12 RB5, 13 RB4, 14 RC2, 15 RC1, 16 RC0, 17 RA2, 18 RA1/ICSPCLK, 19 RA0/ICSPDAT, 20 VSS

## PIC16F1786-xML
designator *  value PIC16F1786-xML  Reference: U
8-bit Flash MCU, 32MHz, 16KB Flash, 1KB RAM, 256B EEPROM, QFN-28; ki_keywords: FLASH-Based 8-Bit CMOS Microcontroller XLP; ki_fp_filters: QFN*1EP*6x6mm*P0.65mm*; Footprint: Package_DFN_QFN:QFN-28-1EP_6x6mm_P0.65mm_EP4.25x4.25mm; Datasheet: http://ww1.microchip.com/downloads/en/DeviceDoc/40001637C.pdf; Description_: 8-bit Flash MCU, 32MHz, 16KB Flash, 1KB RAM, 256B EEPROM, QFN-28
pins: 1 RA2, 2 RA3, 3 RA4, 4 RA5, 5 V_{SS}, 6 RA7, 7 RA6, 8 RC0, 9 RC1, 10 RC2, 11 RC3, 12 RC4, 13 RC5, 14 RC6, 15 RC7, 16 V_{SS}, 17 V_{DD}, 18 RB0, 19 RB1, 20 RB2, 21 RB3, 22 RB4, 23 RB5, 24 ICSPCLK/RB6, 25 ICSPDAT/RB7, 26 RE3/~{{MCLR}/V_{PP}}, 27 RA0, 28 RA1

## PIC16F1786-xP
designator *  value PIC16F1786-xP  Reference: U
8-bit Flash MCU, 32MHz, 16KB Flash, 1KB RAM, 256B EEPROM, PDIP-40; ki_keywords: FLASH-Based 8-Bit CMOS Microcontroller XLP; ki_fp_filters: DIP*W15.24mm*; Footprint: Package_DIP:DIP-40_W15.24mm; Datasheet: http://ww1.microchip.com/downloads/en/DeviceDoc/40001637C.pdf; Description_: 8-bit Flash MCU, 32MHz, 16KB Flash, 1KB RAM, 256B EEPROM, PDIP-40
pins: 1 RE3/~{{MCLR}/V_{PP}}, 2 RA0, 3 RA1, 4 RA2, 5 RA3, 6 RA4, 7 RA5, 8 RE0, 9 RE1, 10 RE2, 11 V_{DD}, 12 V_{SS}, 13 RA7, 14 RA6, 15 RC0, 16 RC1, 17 RC2, 18 RC3, 19 RD0, 20 RD1, 21 RD2, 22 RD3, 23 RC4, 24 RC5, 25 RC6, 26 RC7, 27 RD4, 28 RD5, 29 RD6, 30 RD7, 31 V_{SS}, 32 V_{DD}, 33 RB0, 34 RB1, 35 RB2, 36 RB3, 37 RB4, 38 RB5, 39 ICSPCLK/RB6, 40 ICSPDAT/RB7

## PIC16F1786-xSO
designator *  value PIC16F1786-xSO  Reference: U
8-bit Flash MCU, 32MHz, 16KB Flash, 1KB RAM, 256B EEPROM, SOIC-28; ki_keywords: FLASH-Based 8-Bit CMOS Microcontroller XLP; ki_fp_filters: SOIC*7.5x17.9mm*P1.27mm*; Footprint: Package_SO:SOIC-28W_7.5x17.9mm_P1.27mm; Datasheet: http://ww1.microchip.com/downloads/en/DeviceDoc/40001637C.pdf; Description_: 8-bit Flash MCU, 32MHz, 16KB Flash, 1KB RAM, 256B EEPROM, SOIC-28
pins: 1 RE3/~{{MCLR}/V_{PP}}, 2 RA0, 3 RA1, 4 RA2, 5 RA3, 6 RA4, 7 RA5, 8 V_{SS}, 9 RA7, 10 RA6, 11 RC0, 12 RC1, 13 RC2, 14 RC3, 15 RC4, 16 RC5, 17 RC6, 18 RC7, 19 V_{SS}, 20 V_{DD}, 21 RB0, 22 RB1, 23 RB2, 24 RB3, 25 RB4, 26 RB5, 27 ICSPCLK/RB6, 28 ICSPDAT/RB7

## PIC16F1786-xSP
designator *  value PIC16F1786-xSP  Reference: U
8-bit Flash MCU, 32MHz, 16KB Flash, 1KB RAM, 256B EEPROM, SPDIP-28; ki_keywords: FLASH-Based 8-Bit CMOS Microcontroller XLP; ki_fp_filters: DIP*W7.62mm*; Footprint: Package_DIP:DIP-28_W7.62mm; Datasheet: http://ww1.microchip.com/downloads/en/DeviceDoc/40001637C.pdf; Description_: 8-bit Flash MCU, 32MHz, 16KB Flash, 1KB RAM, 256B EEPROM, SPDIP-28
pins: 1 RE3/~{{MCLR}/V_{PP}}, 2 RA0, 3 RA1, 4 RA2, 5 RA3, 6 RA4, 7 RA5, 8 V_{SS}, 9 RA7, 10 RA6, 11 RC0, 12 RC1, 13 RC2, 14 RC3, 15 RC4, 16 RC5, 17 RC6, 18 RC7, 19 V_{SS}, 20 V_{DD}, 21 RB0, 22 RB1, 23 RB2, 24 RB3, 25 RB4, 26 RB5, 27 ICSPCLK/RB6, 28 ICSPDAT/RB7

## PIC16F1786-xSS
designator *  value PIC16F1786-xSS  Reference: U
8-bit Flash MCU, 32MHz, 16KB Flash, 1KB RAM, 256B EEPROM, SSOP-28; ki_keywords: FLASH-Based 8-Bit CMOS Microcontroller XLP; ki_fp_filters: SSOP*5.3x10.2mm*P0.65mm*; Footprint: Package_SO:SSOP-28_5.3x10.2mm_P0.65mm; Datasheet: http://ww1.microchip.com/downloads/en/DeviceDoc/40001637C.pdf; Description_: 8-bit Flash MCU, 32MHz, 16KB Flash, 1KB RAM, 256B EEPROM, SSOP-28
pins: 1 RE3/~{{MCLR}/V_{PP}}, 2 RA0, 3 RA1, 4 RA2, 5 RA3, 6 RA4, 7 RA5, 8 V_{SS}, 9 RA7, 10 RA6, 11 RC0, 12 RC1, 13 RC2, 14 RC3, 15 RC4, 16 RC5, 17 RC6, 18 RC7, 19 V_{SS}, 20 V_{DD}, 21 RB0, 22 RB1, 23 RB2, 24 RB3, 25 RB4, 26 RB5, 27 ICSPCLK/RB6, 28 ICSPDAT/RB7

## PIC16F1829-IML
designator *  value PIC16F1829-IML  Reference: U
Flash-Based, 8-Bit CMOS Microcontrollers, QFN; ki_keywords: Flash-Based 8-Bit CMOS Microcontroller Low Power; ki_fp_filters: QFN*4x4mm*P0.5mm*; Footprint: Package_DFN_QFN:QFN-20-1EP_4x4mm_P0.5mm_EP2.5x2.5mm; Datasheet: http://ww1.microchip.com/downloads/en/DeviceDoc/41440C.pdf; Description_: Flash-Based, 8-Bit CMOS Microcontrollers, QFN
pins: 1 RA3/MCLR/VPP, 2 RC5, 3 RC4, 4 RC3, 5 RC6, 6 RC7, 7 RB7, 8 RB6, 9 RB5, 10 RB4, 11 RC2, 12 RC1, 13 RC0, 14 RA2, 15 RA1/ICSPCLK, 16 RA0/ICSPDAT, 17 VSS, 18 VDD, 19 RA5, 20 RA4

## PIC16F1829-IP
designator *  value PIC16F1829-IP  Reference: U
Flash-Based, 8-Bit CMOS Microcontrollers, PDIP; ki_keywords: Flash-Based 8-Bit CMOS Microcontroller Low Power; ki_fp_filters: DIP*W7.62mm* SOIC*3.9x8.7mm*P1.27mm* TSSOP*4.4x5mm*P0.65mm*; Datasheet: http://ww1.microchip.com/downloads/en/DeviceDoc/41440C.pdf; Description_: Flash-Based, 8-Bit CMOS Microcontrollers, PDIP
pins: 1 VDD, 2 RA5, 3 RA4, 4 RA3/MCLR/VPP, 5 RC5, 6 RC4, 7 RC3, 8 RC6, 9 RC7, 10 RB7, 11 RB6, 12 RB5, 13 RB4, 14 RC2, 15 RC1, 16 RC0, 17 RA2, 18 RA1/ICSPCLK, 19 RA0/ICSPDAT, 20 VSS

## PIC16F1829-ISL
designator *  value PIC16F1829-ISL  Reference: U
Flash-Based, 8-Bit CMOS Microcontrollers, SOIC; ki_keywords: Flash-Based 8-Bit CMOS Microcontroller Low Power; ki_fp_filters: DIP*W7.62mm* SOIC*3.9x8.7mm*P1.27mm* TSSOP*4.4x5mm*P0.65mm*; Datasheet: http://ww1.microchip.com/downloads/en/DeviceDoc/41440C.pdf; Description_: Flash-Based, 8-Bit CMOS Microcontrollers, SOIC
pins: 1 VDD, 2 RA5, 3 RA4, 4 RA3/MCLR/VPP, 5 RC5, 6 RC4, 7 RC3, 8 RC6, 9 RC7, 10 RB7, 11 RB6, 12 RB5, 13 RB4, 14 RC2, 15 RC1, 16 RC0, 17 RA2, 18 RA1/ICSPCLK, 19 RA0/ICSPDAT, 20 VSS

## PIC16F1829-ISO
designator *  value PIC16F1829-ISO  Reference: U
Flash-Based, 8-Bit CMOS Microcontrollers, SOIC; ki_keywords: Flash-Based 8-Bit CMOS Microcontroller Low Power; ki_fp_filters: DIP*W7.62mm* SOIC*3.9x8.7mm*P1.27mm* TSSOP*4.4x5mm*P0.65mm*; Datasheet: http://ww1.microchip.com/downloads/en/DeviceDoc/41440C.pdf; Description_: Flash-Based, 8-Bit CMOS Microcontrollers, SOIC
pins: 1 VDD, 2 RA5, 3 RA4, 4 RA3/MCLR/VPP, 5 RC5, 6 RC4, 7 RC3, 8 RC6, 9 RC7, 10 RB7, 11 RB6, 12 RB5, 13 RB4, 14 RC2, 15 RC1, 16 RC0, 17 RA2, 18 RA1/ICSPCLK, 19 RA0/ICSPDAT, 20 VSS

## PIC16F1829-ISS
designator *  value PIC16F1829-ISS  Reference: U
Flash-Based, 8-Bit CMOS Microcontrollers, SSOP; ki_keywords: Flash-Based 8-Bit CMOS Microcontroller Low Power; ki_fp_filters: DIP*W7.62mm* SOIC*3.9x8.7mm*P1.27mm* TSSOP*4.4x5mm*P0.65mm*; Datasheet: http://ww1.microchip.com/downloads/en/DeviceDoc/41440C.pdf; Description_: Flash-Based, 8-Bit CMOS Microcontrollers, SSOP
pins: 1 VDD, 2 RA5, 3 RA4, 4 RA3/MCLR/VPP, 5 RC5, 6 RC4, 7 RC3, 8 RC6, 9 RC7, 10 RB7, 11 RB6, 12 RB5, 13 RB4, 14 RC2, 15 RC1, 16 RC0, 17 RA2, 18 RA1/ICSPCLK, 19 RA0/ICSPDAT, 20 VSS

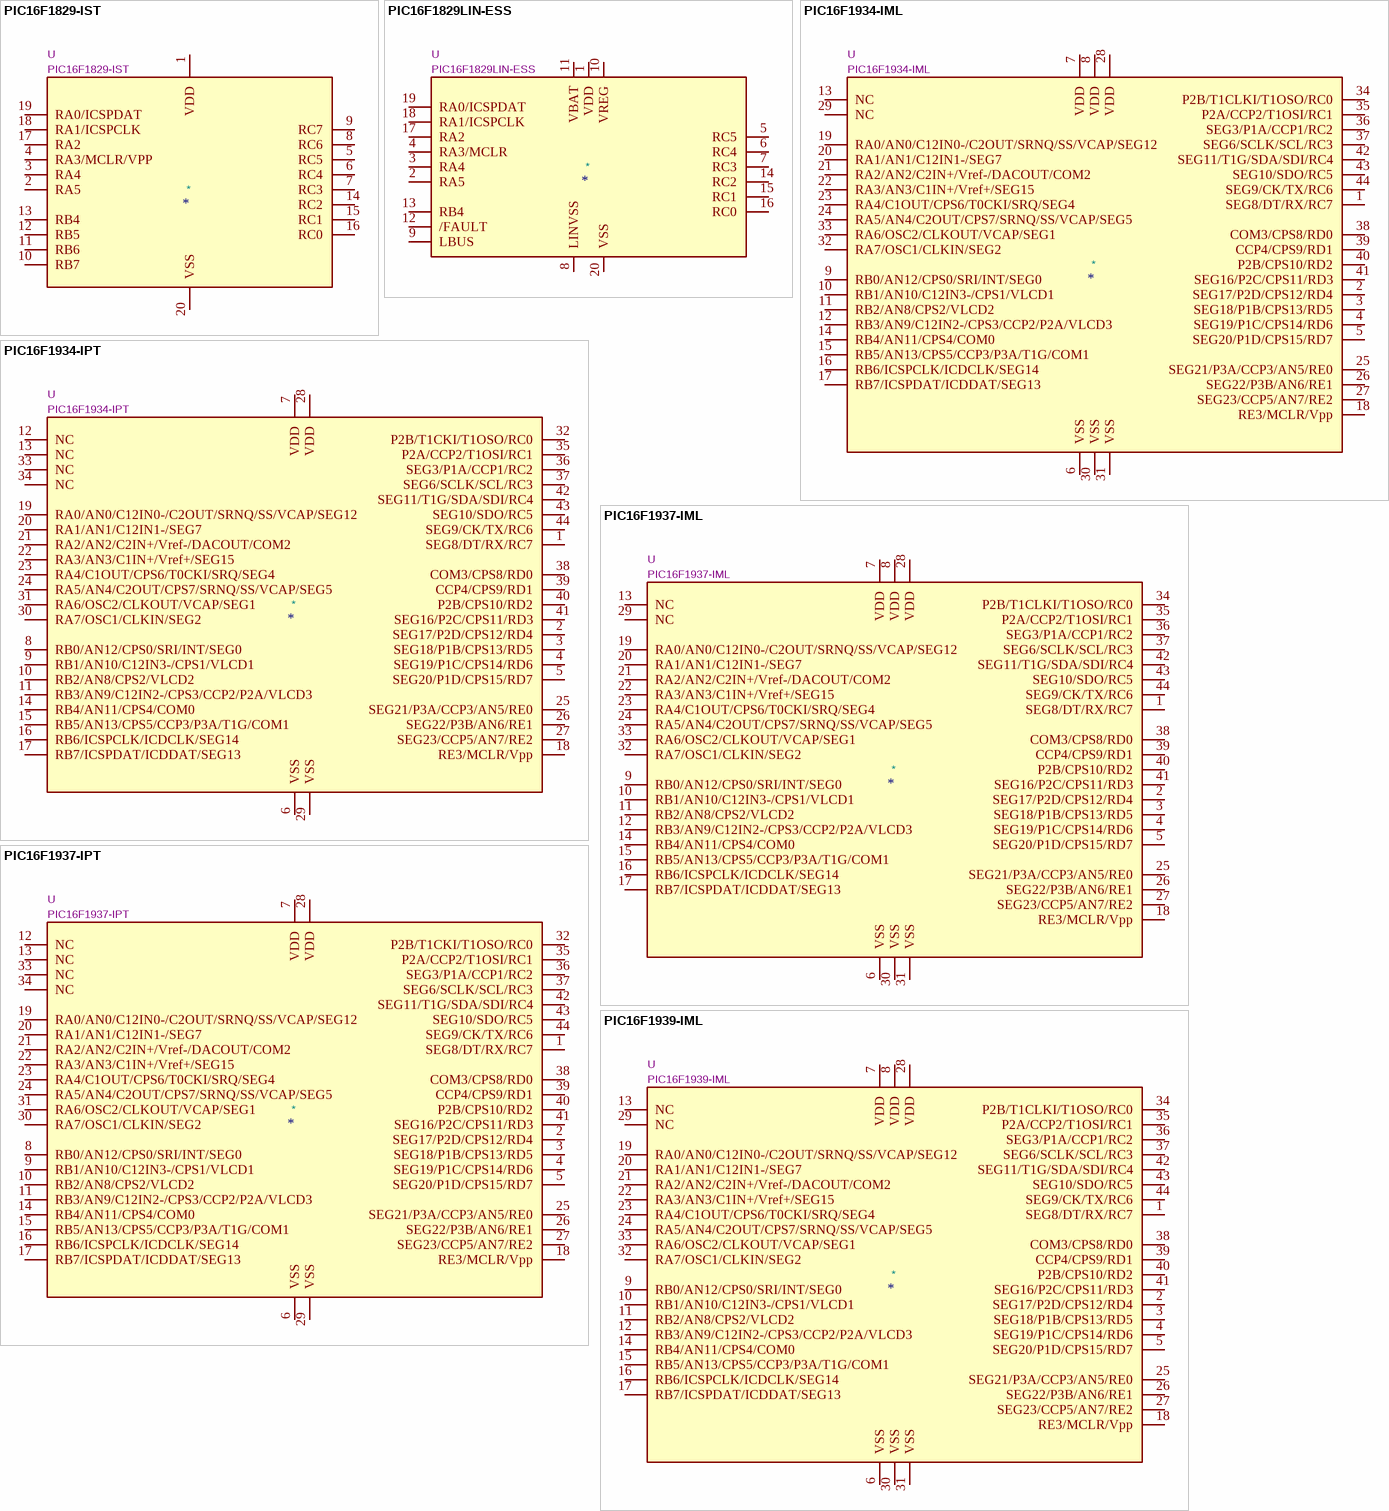
[diagram p13: symbols PIC16F1829-IST to PIC16F1939-IML]

## PIC16F1829-IST
designator *  value PIC16F1829-IST  Reference: U
Flash-Based, 8-Bit CMOS Microcontrollers, TSSOP; ki_keywords: Flash-Based 8-Bit CMOS Microcontroller Low Power; ki_fp_filters: DIP*W7.62mm* SOIC*3.9x8.7mm*P1.27mm* TSSOP*4.4x5mm*P0.65mm*; Datasheet: http://ww1.microchip.com/downloads/en/DeviceDoc/41440C.pdf; Description_: Flash-Based, 8-Bit CMOS Microcontrollers, TSSOP
pins: 1 VDD, 2 RA5, 3 RA4, 4 RA3/MCLR/VPP, 5 RC5, 6 RC4, 7 RC3, 8 RC6, 9 RC7, 10 RB7, 11 RB6, 12 RB5, 13 RB4, 14 RC2, 15 RC1, 16 RC0, 17 RA2, 18 RA1/ICSPCLK, 19 RA0/ICSPDAT, 20 VSS

## PIC16F1829LIN-ESS
designator *  value PIC16F1829LIN-ESS  Reference: U
Flash-Based, 8-Bit CMOS Microcontrollers with integrated voltage regulator and LIN transceiver; ki_keywords: Flash-Based 8-Bit CMOS microcontroller regulator LIN; ki_fp_filters: SSOP*5.3x7.2mm*P0.65mm*; Footprint: Package_SO:SSOP-20_5.3x7.2mm_P0.65mm; Datasheet: http://ww1.microchip.com/downloads/en/DeviceDoc/41673A.pdf; Description_: Flash-Based, 8-Bit CMOS Microcontrollers with integrated voltage regulator and LIN transceiver
pins: 1 VDD, 2 RA5, 3 RA4, 4 RA3/MCLR, 5 RC5, 6 RC4, 7 RC3, 8 LINVSS, 9 LBUS, 10 VREG, 11 VBAT, 12 /FAULT, 13 RB4, 14 RC2, 15 RC1, 16 RC0, 17 RA2, 18 RA1/ICSPCLK, 19 RA0/ICSPDAT, 20 VSS

## PIC16F1934-IML
designator *  value PIC16F1934-IML  Reference: U
PIC16F193XLF193X - Flash-Based, 8-Bit CMOS Microcontrollers, QFN-44; ki_fp_filters: MLF*; Datasheet: http://ww1.microchip.com/downloads/en/DeviceDoc/41364E.pdf; Description_: PIC16F193XLF193X - Flash-Based, 8-Bit CMOS Microcontrollers, QFN-44
pins: 1 SEG8/DT/RX/RC7, 2 SEG17/P2D/CPS12/RD4, 3 SEG18/P1B/CPS13/RD5, 4 SEG19/P1C/CPS14/RD6, 5 SEG20/P1D/CPS15/RD7, 6 VSS, 7 VDD, 8 VDD, 9 RB0/AN12/CPS0/SRI/INT/SEG0, 10 RB1/AN10/C12IN3-/CPS1/VLCD1, 11 RB2/AN8/CPS2/VLCD2, 12 RB3/AN9/C12IN2-/CPS3/CCP2/P2A/VLCD3, 13 NC, 14 RB4/AN11/CPS4/COM0, 15 RB5/AN13/CPS5/CCP3/P3A/T1G/COM1, 16 RB6/ICSPCLK/ICDCLK/SEG14, 17 RB7/ICSPDAT/ICDDAT/SEG13, 18 RE3/MCLR/Vpp, 19 RA0/AN0/C12IN0-/C2OUT/SRNQ/SS/VCAP/SEG12, 20 RA1/AN1/C12IN1-/SEG7, 21 RA2/AN2/C2IN+/Vref-/DACOUT/COM2, 22 RA3/AN3/C1IN+/Vref+/SEG15, 23 RA4/C1OUT/CPS6/T0CKI/SRQ/SEG4, 24 RA5/AN4/C2OUT/CPS7/SRNQ/SS/VCAP/SEG5, 25 SEG21/P3A/CCP3/AN5/RE0, 26 SEG22/P3B/AN6/RE1, 27 SEG23/CCP5/AN7/RE2, 28 VDD, 29 NC, 30 VSS, 31 VSS, 32 RA7/OSC1/CLKIN/SEG2, 33 RA6/OSC2/CLKOUT/VCAP/SEG1, 34 P2B/T1CLKI/T1OSO/RC0, 35 P2A/CCP2/T1OSI/RC1, 36 SEG3/P1A/CCP1/RC2, 37 SEG6/SCLK/SCL/RC3, 38 COM3/CPS8/RD0, 39 CCP4/CPS9/RD1, 40 P2B/CPS10/RD2, 41 SEG16/P2C/CPS11/RD3, 42 SEG11/T1G/SDA/SDI/RC4, 43 SEG10/SDO/RC5, 44 SEG9/CK/TX/RC6

## PIC16F1934-IPT
designator *  value PIC16F1934-IPT  Reference: U
PIC16F193XLF193X - Flash-Based, 8-Bit CMOS Microcontrollers, TQFP-44; ki_fp_filters: TQFP*; Datasheet: http://ww1.microchip.com/downloads/en/DeviceDoc/41364E.pdf; Description_: PIC16F193XLF193X - Flash-Based, 8-Bit CMOS Microcontrollers, TQFP-44
pins: 1 SEG8/DT/RX/RC7, 2 SEG17/P2D/CPS12/RD4, 3 SEG18/P1B/CPS13/RD5, 4 SEG19/P1C/CPS14/RD6, 5 SEG20/P1D/CPS15/RD7, 6 VSS, 7 VDD, 8 RB0/AN12/CPS0/SRI/INT/SEG0, 9 RB1/AN10/C12IN3-/CPS1/VLCD1, 10 RB2/AN8/CPS2/VLCD2, 11 RB3/AN9/C12IN2-/CPS3/CCP2/P2A/VLCD3, 12 NC, 13 NC, 14 RB4/AN11/CPS4/COM0, 15 RB5/AN13/CPS5/CCP3/P3A/T1G/COM1, 16 RB6/ICSPCLK/ICDCLK/SEG14, 17 RB7/ICSPDAT/ICDDAT/SEG13, 18 RE3/MCLR/Vpp, 19 RA0/AN0/C12IN0-/C2OUT/SRNQ/SS/VCAP/SEG12, 20 RA1/AN1/C12IN1-/SEG7, 21 RA2/AN2/C2IN+/Vref-/DACOUT/COM2, 22 RA3/AN3/C1IN+/Vref+/SEG15, 23 RA4/C1OUT/CPS6/T0CKI/SRQ/SEG4, 24 RA5/AN4/C2OUT/CPS7/SRNQ/SS/VCAP/SEG5, 25 SEG21/P3A/CCP3/AN5/RE0, 26 SEG22/P3B/AN6/RE1, 27 SEG23/CCP5/AN7/RE2, 28 VDD, 29 VSS, 30 RA7/OSC1/CLKIN/SEG2, 31 RA6/OSC2/CLKOUT/VCAP/SEG1, 32 P2B/T1CKI/T1OSO/RC0, 33 NC, 34 NC, 35 P2A/CCP2/T1OSI/RC1, 36 SEG3/P1A/CCP1/RC2, 37 SEG6/SCLK/SCL/RC3, 38 COM3/CPS8/RD0, 39 CCP4/CPS9/RD1, 40 P2B/CPS10/RD2, 41 SEG16/P2C/CPS11/RD3, 42 SEG11/T1G/SDA/SDI/RC4, 43 SEG10/SDO/RC5, 44 SEG9/CK/TX/RC6

## PIC16F1937-IML
designator *  value PIC16F1937-IML  Reference: U
PIC16F193XLF193X - Flash-Based, 8-Bit CMOS Microcontrollers, QFN-44; ki_fp_filters: MLF*; Datasheet: http://ww1.microchip.com/downloads/en/DeviceDoc/41364E.pdf; Description_: PIC16F193XLF193X - Flash-Based, 8-Bit CMOS Microcontrollers, QFN-44
pins: 1 SEG8/DT/RX/RC7, 2 SEG17/P2D/CPS12/RD4, 3 SEG18/P1B/CPS13/RD5, 4 SEG19/P1C/CPS14/RD6, 5 SEG20/P1D/CPS15/RD7, 6 VSS, 7 VDD, 8 VDD, 9 RB0/AN12/CPS0/SRI/INT/SEG0, 10 RB1/AN10/C12IN3-/CPS1/VLCD1, 11 RB2/AN8/CPS2/VLCD2, 12 RB3/AN9/C12IN2-/CPS3/CCP2/P2A/VLCD3, 13 NC, 14 RB4/AN11/CPS4/COM0, 15 RB5/AN13/CPS5/CCP3/P3A/T1G/COM1, 16 RB6/ICSPCLK/ICDCLK/SEG14, 17 RB7/ICSPDAT/ICDDAT/SEG13, 18 RE3/MCLR/Vpp, 19 RA0/AN0/C12IN0-/C2OUT/SRNQ/SS/VCAP/SEG12, 20 RA1/AN1/C12IN1-/SEG7, 21 RA2/AN2/C2IN+/Vref-/DACOUT/COM2, 22 RA3/AN3/C1IN+/Vref+/SEG15, 23 RA4/C1OUT/CPS6/T0CKI/SRQ/SEG4, 24 RA5/AN4/C2OUT/CPS7/SRNQ/SS/VCAP/SEG5, 25 SEG21/P3A/CCP3/AN5/RE0, 26 SEG22/P3B/AN6/RE1, 27 SEG23/CCP5/AN7/RE2, 28 VDD, 29 NC, 30 VSS, 31 VSS, 32 RA7/OSC1/CLKIN/SEG2, 33 RA6/OSC2/CLKOUT/VCAP/SEG1, 34 P2B/T1CLKI/T1OSO/RC0, 35 P2A/CCP2/T1OSI/RC1, 36 SEG3/P1A/CCP1/RC2, 37 SEG6/SCLK/SCL/RC3, 38 COM3/CPS8/RD0, 39 CCP4/CPS9/RD1, 40 P2B/CPS10/RD2, 41 SEG16/P2C/CPS11/RD3, 42 SEG11/T1G/SDA/SDI/RC4, 43 SEG10/SDO/RC5, 44 SEG9/CK/TX/RC6

## PIC16F1937-IPT
designator *  value PIC16F1937-IPT  Reference: U
PIC16F193XLF193X - Flash-Based, 8-Bit CMOS Microcontrollers, TQFP-44; ki_fp_filters: TQFP*; Datasheet: http://ww1.microchip.com/downloads/en/DeviceDoc/41364E.pdf; Description_: PIC16F193XLF193X - Flash-Based, 8-Bit CMOS Microcontrollers, TQFP-44
pins: 1 SEG8/DT/RX/RC7, 2 SEG17/P2D/CPS12/RD4, 3 SEG18/P1B/CPS13/RD5, 4 SEG19/P1C/CPS14/RD6, 5 SEG20/P1D/CPS15/RD7, 6 VSS, 7 VDD, 8 RB0/AN12/CPS0/SRI/INT/SEG0, 9 RB1/AN10/C12IN3-/CPS1/VLCD1, 10 RB2/AN8/CPS2/VLCD2, 11 RB3/AN9/C12IN2-/CPS3/CCP2/P2A/VLCD3, 12 NC, 13 NC, 14 RB4/AN11/CPS4/COM0, 15 RB5/AN13/CPS5/CCP3/P3A/T1G/COM1, 16 RB6/ICSPCLK/ICDCLK/SEG14, 17 RB7/ICSPDAT/ICDDAT/SEG13, 18 RE3/MCLR/Vpp, 19 RA0/AN0/C12IN0-/C2OUT/SRNQ/SS/VCAP/SEG12, 20 RA1/AN1/C12IN1-/SEG7, 21 RA2/AN2/C2IN+/Vref-/DACOUT/COM2, 22 RA3/AN3/C1IN+/Vref+/SEG15, 23 RA4/C1OUT/CPS6/T0CKI/SRQ/SEG4, 24 RA5/AN4/C2OUT/CPS7/SRNQ/SS/VCAP/SEG5, 25 SEG21/P3A/CCP3/AN5/RE0, 26 SEG22/P3B/AN6/RE1, 27 SEG23/CCP5/AN7/RE2, 28 VDD, 29 VSS, 30 RA7/OSC1/CLKIN/SEG2, 31 RA6/OSC2/CLKOUT/VCAP/SEG1, 32 P2B/T1CKI/T1OSO/RC0, 33 NC, 34 NC, 35 P2A/CCP2/T1OSI/RC1, 36 SEG3/P1A/CCP1/RC2, 37 SEG6/SCLK/SCL/RC3, 38 COM3/CPS8/RD0, 39 CCP4/CPS9/RD1, 40 P2B/CPS10/RD2, 41 SEG16/P2C/CPS11/RD3, 42 SEG11/T1G/SDA/SDI/RC4, 43 SEG10/SDO/RC5, 44 SEG9/CK/TX/RC6

## PIC16F1939-IML
designator *  value PIC16F1939-IML  Reference: U
PIC16F193XLF193X - Flash-Based, 8-Bit CMOS Microcontrollers, QFN-44; ki_fp_filters: MLF*; Datasheet: http://ww1.microchip.com/downloads/en/DeviceDoc/41364E.pdf; Description_: PIC16F193XLF193X - Flash-Based, 8-Bit CMOS Microcontrollers, QFN-44
pins: 1 SEG8/DT/RX/RC7, 2 SEG17/P2D/CPS12/RD4, 3 SEG18/P1B/CPS13/RD5, 4 SEG19/P1C/CPS14/RD6, 5 SEG20/P1D/CPS15/RD7, 6 VSS, 7 VDD, 8 VDD, 9 RB0/AN12/CPS0/SRI/INT/SEG0, 10 RB1/AN10/C12IN3-/CPS1/VLCD1, 11 RB2/AN8/CPS2/VLCD2, 12 RB3/AN9/C12IN2-/CPS3/CCP2/P2A/VLCD3, 13 NC, 14 RB4/AN11/CPS4/COM0, 15 RB5/AN13/CPS5/CCP3/P3A/T1G/COM1, 16 RB6/ICSPCLK/ICDCLK/SEG14, 17 RB7/ICSPDAT/ICDDAT/SEG13, 18 RE3/MCLR/Vpp, 19 RA0/AN0/C12IN0-/C2OUT/SRNQ/SS/VCAP/SEG12, 20 RA1/AN1/C12IN1-/SEG7, 21 RA2/AN2/C2IN+/Vref-/DACOUT/COM2, 22 RA3/AN3/C1IN+/Vref+/SEG15, 23 RA4/C1OUT/CPS6/T0CKI/SRQ/SEG4, 24 RA5/AN4/C2OUT/CPS7/SRNQ/SS/VCAP/SEG5, 25 SEG21/P3A/CCP3/AN5/RE0, 26 SEG22/P3B/AN6/RE1, 27 SEG23/CCP5/AN7/RE2, 28 VDD, 29 NC, 30 VSS, 31 VSS, 32 RA7/OSC1/CLKIN/SEG2, 33 RA6/OSC2/CLKOUT/VCAP/SEG1, 34 P2B/T1CLKI/T1OSO/RC0, 35 P2A/CCP2/T1OSI/RC1, 36 SEG3/P1A/CCP1/RC2, 37 SEG6/SCLK/SCL/RC3, 38 COM3/CPS8/RD0, 39 CCP4/CPS9/RD1, 40 P2B/CPS10/RD2, 41 SEG16/P2C/CPS11/RD3, 42 SEG11/T1G/SDA/SDI/RC4, 43 SEG10/SDO/RC5, 44 SEG9/CK/TX/RC6

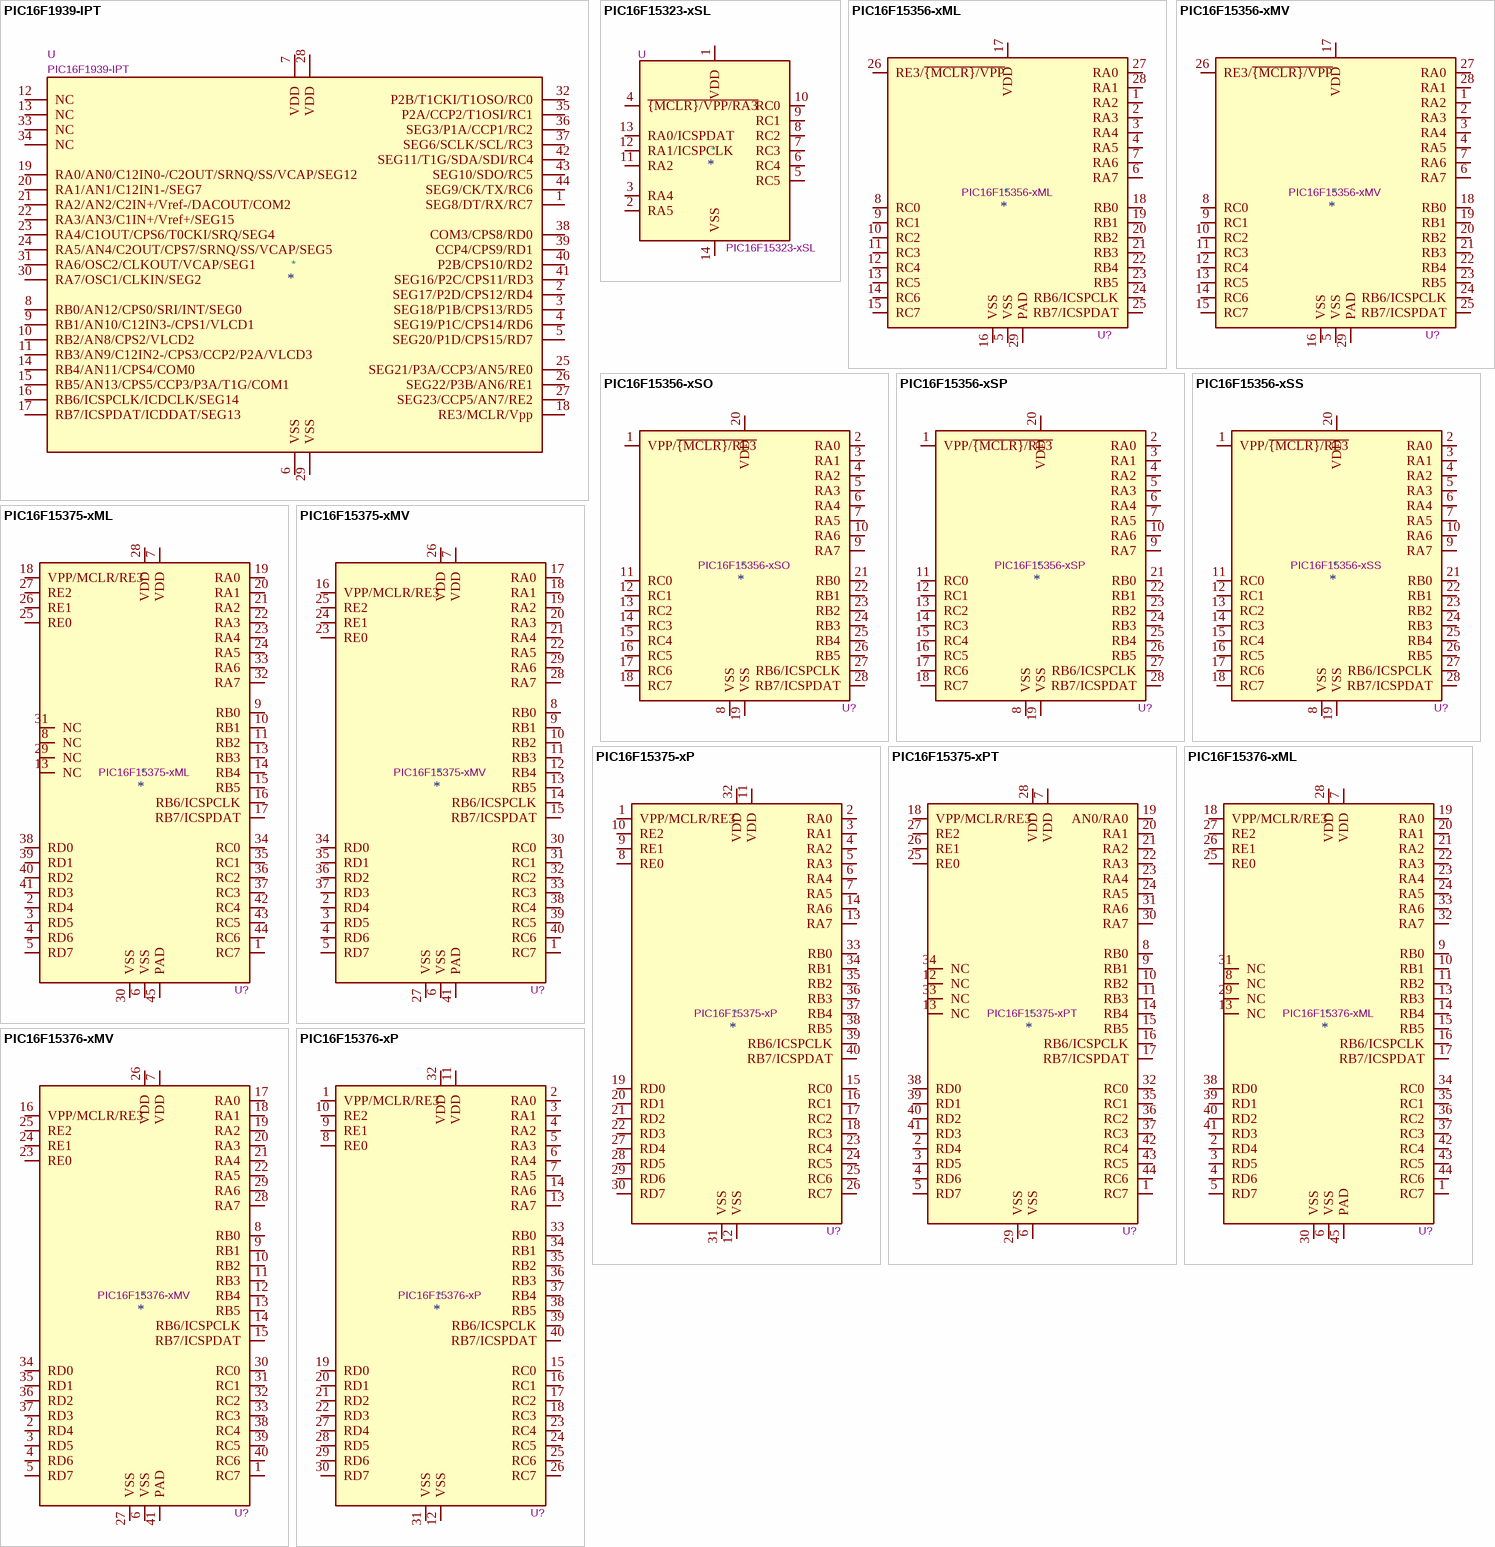
[diagram p14: symbols PIC16F1939-IPT to PIC16F15376-xP]

## PIC16F1939-IPT
designator *  value PIC16F1939-IPT  Reference: U
PIC16F193XLF193X - Flash-Based, 8-Bit CMOS Microcontrollers, TQFP-44; ki_fp_filters: TQFP*; Datasheet: http://ww1.microchip.com/downloads/en/DeviceDoc/41364E.pdf; Description_: PIC16F193XLF193X - Flash-Based, 8-Bit CMOS Microcontrollers, TQFP-44
pins: 1 SEG8/DT/RX/RC7, 2 SEG17/P2D/CPS12/RD4, 3 SEG18/P1B/CPS13/RD5, 4 SEG19/P1C/CPS14/RD6, 5 SEG20/P1D/CPS15/RD7, 6 VSS, 7 VDD, 8 RB0/AN12/CPS0/SRI/INT/SEG0, 9 RB1/AN10/C12IN3-/CPS1/VLCD1, 10 RB2/AN8/CPS2/VLCD2, 11 RB3/AN9/C12IN2-/CPS3/CCP2/P2A/VLCD3, 12 NC, 13 NC, 14 RB4/AN11/CPS4/COM0, 15 RB5/AN13/CPS5/CCP3/P3A/T1G/COM1, 16 RB6/ICSPCLK/ICDCLK/SEG14, 17 RB7/ICSPDAT/ICDDAT/SEG13, 18 RE3/MCLR/Vpp, 19 RA0/AN0/C12IN0-/C2OUT/SRNQ/SS/VCAP/SEG12, 20 RA1/AN1/C12IN1-/SEG7, 21 RA2/AN2/C2IN+/Vref-/DACOUT/COM2, 22 RA3/AN3/C1IN+/Vref+/SEG15, 23 RA4/C1OUT/CPS6/T0CKI/SRQ/SEG4, 24 RA5/AN4/C2OUT/CPS7/SRNQ/SS/VCAP/SEG5, 25 SEG21/P3A/CCP3/AN5/RE0, 26 SEG22/P3B/AN6/RE1, 27 SEG23/CCP5/AN7/RE2, 28 VDD, 29 VSS, 30 RA7/OSC1/CLKIN/SEG2, 31 RA6/OSC2/CLKOUT/VCAP/SEG1, 32 P2B/T1CKI/T1OSO/RC0, 33 NC, 34 NC, 35 P2A/CCP2/T1OSI/RC1, 36 SEG3/P1A/CCP1/RC2, 37 SEG6/SCLK/SCL/RC3, 38 COM3/CPS8/RD0, 39 CCP4/CPS9/RD1, 40 P2B/CPS10/RD2, 41 SEG16/P2C/CPS11/RD3, 42 SEG11/T1G/SDA/SDI/RC4, 43 SEG10/SDO/RC5, 44 SEG9/CK/TX/RC6

## PIC16F15323-xSL
designator *  value PIC16F15323-xSL  Reference: U
8-bit Low Power Microcontroller, 2KB Flash, 256B SRAM, SOIC-14; ki_keywords: 8-bit microcontroller low power; ki_fp_filters: SO*3.9x8.65mm*P1.27mm*; Footprint: Package_SO:SO-14_3.9x8.65mm_P1.27mm; Datasheet: https://ww1.microchip.com/downloads/en/DeviceDoc/PIC16_L_F15313_23_Data_Sheet_40001897C.pdf; Description_: 8-bit Low Power Microcontroller, 2KB Flash, 256B SRAM, SOIC-14
pins: 1 VDD, 2 RA5, 3 RA4, 4 ~{{MCLR}/VPP/RA3}, 5 RC5, 6 RC4, 7 RC3, 8 RC2, 9 RC1, 10 RC0, 11 RA2, 12 RA1/ICSPCLK, 13 RA0/ICSPDAT, 14 VSS

## PIC16F15356-xML
designator *  value PIC16F15356-xML  Reference: U?
16KW FLASH, 2048B SRAM, QFN-28(6x6mm); ki_keywords: FLASH-Based 8-Bit CMOS Microcontroller Low Power; ki_fp_filters: QFN*6x6mm*; Footprint: Package_DFN_QFN:QFN-28-1EP_6x6mm_P0.65mm_EP4.25x4.25mm; Datasheet: http://ww1.microchip.com/downloads/en/DeviceDoc/PIC16LF15356-75-76-85-86-Data%20Sheet-40001866B.pdf; Description_: 16KW FLASH, 2048B SRAM, QFN-28(6x6mm)
pins: 1 RA2, 2 RA3, 3 RA4, 4 RA5, 5 VSS, 6 RA7, 7 RA6, 8 RC0, 9 RC1, 10 RC2, 11 RC3, 12 RC4, 13 RC5, 14 RC6, 15 RC7, 16 VSS, 17 VDD, 18 RB0, 19 RB1, 20 RB2, 21 RB3, 22 RB4, 23 RB5, 24 RB6/ICSPCLK, 25 RB7/ICSPDAT, 26 RE3/~{{MCLR}/VPP}, 27 RA0, 28 RA1, 29 PAD

## PIC16F15356-xMV
designator *  value PIC16F15356-xMV  Reference: U?
16KW FLASH, 2048B SRAM, QFN-28(4x4mm); ki_keywords: FLASH-Based 8-Bit CMOS Microcontroller Low Power; ki_fp_filters: QFN*4x4mm*; Footprint: Package_DFN_QFN:QFN-28-1EP_4x4mm_P0.4mm_EP2.3x2.3mm; Datasheet: http://ww1.microchip.com/downloads/en/DeviceDoc/PIC16LF15356-75-76-85-86-Data%20Sheet-40001866B.pdf; Description_: 16KW FLASH, 2048B SRAM, QFN-28(4x4mm)
pins: 1 RA2, 2 RA3, 3 RA4, 4 RA5, 5 VSS, 6 RA7, 7 RA6, 8 RC0, 9 RC1, 10 RC2, 11 RC3, 12 RC4, 13 RC5, 14 RC6, 15 RC7, 16 VSS, 17 VDD, 18 RB0, 19 RB1, 20 RB2, 21 RB3, 22 RB4, 23 RB5, 24 RB6/ICSPCLK, 25 RB7/ICSPDAT, 26 RE3/~{{MCLR}/VPP}, 27 RA0, 28 RA1, 29 PAD

## PIC16F15356-xSO
designator *  value PIC16F15356-xSO  Reference: U?
16KW FLASH, 2048B SRAM, SOIC-28; ki_keywords: FLASH-Based 8-Bit CMOS Microcontroller Low Power; ki_fp_filters: SOIC*.5x17.9mm*; Footprint: Package_SO:SOIC-28W_7.5x17.9mm_P1.27mm; Datasheet: http://ww1.microchip.com/downloads/en/DeviceDoc/PIC16LF15356-75-76-85-86-Data%20Sheet-40001866B.pdf; Description_: 16KW FLASH, 2048B SRAM, SOIC-28
pins: 1 VPP/~{{MCLR}/RE3}, 2 RA0, 3 RA1, 4 RA2, 5 RA3, 6 RA4, 7 RA5, 8 VSS, 9 RA7, 10 RA6, 11 RC0, 12 RC1, 13 RC2, 14 RC3, 15 RC4, 16 RC5, 17 RC6, 18 RC7, 19 VSS, 20 VDD, 21 RB0, 22 RB1, 23 RB2, 24 RB3, 25 RB4, 26 RB5, 27 RB6/ICSPCLK, 28 RB7/ICSPDAT

## PIC16F15356-xSP
designator *  value PIC16F15356-xSP  Reference: U?
16KW FLASH, 2048B SRAM, DIP-28; ki_keywords: FLASH-Based 8-Bit CMOS Microcontroller Low Power; ki_fp_filters: DIP*7.62mm*; Footprint: Package_DIP:DIP-28_W7.62mm; Datasheet: http://ww1.microchip.com/downloads/en/DeviceDoc/PIC16LF15356-75-76-85-86-Data%20Sheet-40001866B.pdf; Description_: 16KW FLASH, 2048B SRAM, DIP-28
pins: 1 VPP/~{{MCLR}/RE3}, 2 RA0, 3 RA1, 4 RA2, 5 RA3, 6 RA4, 7 RA5, 8 VSS, 9 RA7, 10 RA6, 11 RC0, 12 RC1, 13 RC2, 14 RC3, 15 RC4, 16 RC5, 17 RC6, 18 RC7, 19 VSS, 20 VDD, 21 RB0, 22 RB1, 23 RB2, 24 RB3, 25 RB4, 26 RB5, 27 RB6/ICSPCLK, 28 RB7/ICSPDAT

## PIC16F15356-xSS
designator *  value PIC16F15356-xSS  Reference: U?
16KW FLASH, 2048B SRAM, SSOP-28; ki_keywords: FLASH-Based 8-Bit CMOS Microcontroller Low Power; ki_fp_filters: SSOP*5.3x10.2mm*; Footprint: Package_SO:SSOP-28_5.3x10.2mm_P0.65mm; Datasheet: http://ww1.microchip.com/downloads/en/DeviceDoc/PIC16LF15356-75-76-85-86-Data%20Sheet-40001866B.pdf; Description_: 16KW FLASH, 2048B SRAM, SSOP-28
pins: 1 VPP/~{{MCLR}/RE3}, 2 RA0, 3 RA1, 4 RA2, 5 RA3, 6 RA4, 7 RA5, 8 VSS, 9 RA7, 10 RA6, 11 RC0, 12 RC1, 13 RC2, 14 RC3, 15 RC4, 16 RC5, 17 RC6, 18 RC7, 19 VSS, 20 VDD, 21 RB0, 22 RB1, 23 RB2, 24 RB3, 25 RB4, 26 RB5, 27 RB6/ICSPCLK, 28 RB7/ICSPDAT

## PIC16F15375-xML
designator *  value PIC16F15375-xML  Reference: U?
8KW FLASH, 1024B SRAM, QFN-44(8x8mm); ki_keywords: FLASH-Based 8-Bit CMOS Microcontroller Low Power; ki_fp_filters: QFN*8x8mm*; Footprint: Package_DFN_QFN:QFN-44-1EP_8x8mm_P0.65mm_EP6.45x6.45mm; Datasheet: http://ww1.microchip.com/downloads/en/DeviceDoc/PIC16LF15356-75-76-85-86-Data%20Sheet-40001866B.pdf; Description_: 8KW FLASH, 1024B SRAM, QFN-44(8x8mm)
pins: 1 RC7, 2 RD4, 3 RD5, 4 RD6, 5 RD7, 6 VSS, 7 VDD, 8 NC, 9 RB0, 10 RB1, 11 RB2, 13 RB3, 13 NC, 14 RB4, 15 RB5, 16 RB6/ICSPCLK, 17 RB7/ICSPDAT, 18 VPP/MCLR/RE3, 19 RA0, 20 RA1, 21 RA2, 22 RA3, 23 RA4, 24 RA5, 25 RE0, 26 RE1, 27 RE2, 28 VDD, 29 NC, 30 VSS, 31 NC, 32 RA7, 33 RA6, 34 RC0, 35 RC1, 36 RC2, 37 RC3, 38 RD0, 39 RD1, 40 RD2, 41 RD3, 42 RC4, 43 RC5, 44 RC6, 45 PAD

## PIC16F15375-xMV
designator *  value PIC16F15375-xMV  Reference: U?
8KW FLASH, 1024B SRAM, QFN-40(5x5mm); ki_keywords: FLASH-Based 8-Bit CMOS Microcontroller Low Power; ki_fp_filters: QFN*1EP*5x5mm*; Footprint: Package_DFN_QFN:QFN-40-1EP_5x5mm_P0.4mm_EP3.8x3.8mm; Datasheet: http://ww1.microchip.com/downloads/en/DeviceDoc/PIC16LF15356-75-76-85-86-Data%20Sheet-40001866B.pdf; Description_: 8KW FLASH, 1024B SRAM, QFN-40(5x5mm)
pins: 1 RC7, 2 RD4, 3 RD5, 4 RD6, 5 RD7, 6 VSS, 7 VDD, 8 RB0, 9 RB1, 10 RB2, 11 RB3, 12 RB4, 13 RB5, 14 RB6/ICSPCLK, 15 RB7/ICSPDAT, 16 VPP/MCLR/RE3, 17 RA0, 18 RA1, 19 RA2, 20 RA3, 21 RA4, 22 RA5, 23 RE0, 24 RE1, 25 RE2, 26 VDD, 27 VSS, 28 RA7, 29 RA6, 30 RC0, 31 RC1, 32 RC2, 33 RC3, 34 RD0, 35 RD1, 36 RD2, 37 RD3, 38 RC4, 39 RC5, 40 RC6, 41 PAD

## PIC16F15375-xP
designator *  value PIC16F15375-xP  Reference: U?
8KW FLASH, 1024B SRAM, DIP-40; ki_keywords: FLASH-Based 8-Bit CMOS Microcontroller Low Power; ki_fp_filters: DIP*15.24mm*; Footprint: Package_DIP:DIP-40_W15.24mm; Datasheet: http://ww1.microchip.com/downloads/en/DeviceDoc/PIC16LF15356-75-76-85-86-Data%20Sheet-40001866B.pdf; Description_: 8KW FLASH, 1024B SRAM, DIP-40
pins: 1 VPP/MCLR/RE3, 2 RA0, 3 RA1, 4 RA2, 5 RA3, 6 RA4, 7 RA5, 8 RE0, 9 RE1, 10 RE2, 11 VDD, 12 VSS, 13 RA7, 14 RA6, 15 RC0, 16 RC1, 17 RC2, 18 RC3, 19 RD0, 20 RD1, 21 RD2, 22 RD3, 23 RC4, 24 RC5, 25 RC6, 26 RC7, 27 RD4, 28 RD5, 29 RD6, 30 RD7, 31 VSS, 32 VDD, 33 RB0, 34 RB1, 35 RB2, 36 RB3, 37 RB4, 38 RB5, 39 RB6/ICSPCLK, 40 RB7/ICSPDAT

## PIC16F15375-xPT
designator *  value PIC16F15375-xPT  Reference: U?
8KW FLASH, 1024B SRAM, TQFP-44(10x10mm); ki_keywords: FLASH-Based 8-Bit CMOS Microcontroller Low Power; ki_fp_filters: TQFP*10x10mm*; Footprint: Package_QFP:TQFP-44_10x10mm_P0.8mm; Datasheet: http://ww1.microchip.com/downloads/en/DeviceDoc/PIC16LF15356-75-76-85-86-Data%20Sheet-40001866B.pdf; Description_: 8KW FLASH, 1024B SRAM, TQFP-44(10x10mm)
pins: 1 RC7, 2 RD4, 3 RD5, 4 RD6, 5 RD7, 6 VSS, 7 VDD, 8 RB0, 9 RB1, 10 RB2, 11 RB3, 12 NC, 13 NC, 14 RB4, 15 RB5, 16 RB6/ICSPCLK, 17 RB7/ICSPDAT, 18 VPP/MCLR/RE3, 19 AN0/RA0, 20 RA1, 21 RA2, 22 RA3, 23 RA4, 24 RA5, 25 RE0, 26 RE1, 27 RE2, 28 VDD, 29 VSS, 30 RA7, 31 RA6, 32 RC0, 33 NC, 34 NC, 35 RC1, 36 RC2, 37 RC3, 38 RD0, 39 RD1, 40 RD2, 41 RD3, 42 RC4, 43 RC5, 44 RC6

## PIC16F15376-xML
designator *  value PIC16F15376-xML  Reference: U?
16KW FLASH, 2048B SRAM, QFN-44(8x8mm); ki_keywords: FLASH-Based 8-Bit CMOS Microcontroller Low Power; ki_fp_filters: QFN*8x8mm*; Footprint: Package_DFN_QFN:QFN-44-1EP_8x8mm_P0.65mm_EP6.45x6.45mm; Datasheet: http://ww1.microchip.com/downloads/en/DeviceDoc/PIC16LF15356-75-76-85-86-Data%20Sheet-40001866B.pdf; Description_: 16KW FLASH, 2048B SRAM, QFN-44(8x8mm)
pins: 1 RC7, 2 RD4, 3 RD5, 4 RD6, 5 RD7, 6 VSS, 7 VDD, 8 NC, 9 RB0, 10 RB1, 11 RB2, 13 RB3, 13 NC, 14 RB4, 15 RB5, 16 RB6/ICSPCLK, 17 RB7/ICSPDAT, 18 VPP/MCLR/RE3, 19 RA0, 20 RA1, 21 RA2, 22 RA3, 23 RA4, 24 RA5, 25 RE0, 26 RE1, 27 RE2, 28 VDD, 29 NC, 30 VSS, 31 NC, 32 RA7, 33 RA6, 34 RC0, 35 RC1, 36 RC2, 37 RC3, 38 RD0, 39 RD1, 40 RD2, 41 RD3, 42 RC4, 43 RC5, 44 RC6, 45 PAD

## PIC16F15376-xMV
designator *  value PIC16F15376-xMV  Reference: U?
16KW FLASH, 2048B SRAM, QFN-40(5x5mm); ki_keywords: FLASH-Based 8-Bit CMOS Microcontroller Low Power; ki_fp_filters: QFN*1EP*5x5mm*; Footprint: Package_DFN_QFN:QFN-40-1EP_5x5mm_P0.4mm_EP3.8x3.8mm; Datasheet: http://ww1.microchip.com/downloads/en/DeviceDoc/PIC16LF15356-75-76-85-86-Data%20Sheet-40001866B.pdf; Description_: 16KW FLASH, 2048B SRAM, QFN-40(5x5mm)
pins: 1 RC7, 2 RD4, 3 RD5, 4 RD6, 5 RD7, 6 VSS, 7 VDD, 8 RB0, 9 RB1, 10 RB2, 11 RB3, 12 RB4, 13 RB5, 14 RB6/ICSPCLK, 15 RB7/ICSPDAT, 16 VPP/MCLR/RE3, 17 RA0, 18 RA1, 19 RA2, 20 RA3, 21 RA4, 22 RA5, 23 RE0, 24 RE1, 25 RE2, 26 VDD, 27 VSS, 28 RA7, 29 RA6, 30 RC0, 31 RC1, 32 RC2, 33 RC3, 34 RD0, 35 RD1, 36 RD2, 37 RD3, 38 RC4, 39 RC5, 40 RC6, 41 PAD

## PIC16F15376-xP
designator *  value PIC16F15376-xP  Reference: U?
16KW FLASH, 2048B SRAM, DIP-40; ki_keywords: FLASH-Based 8-Bit CMOS Microcontroller Low Power; ki_fp_filters: DIP*15.24mm*; Footprint: Package_DIP:DIP-40_W15.24mm; Datasheet: http://ww1.microchip.com/downloads/en/DeviceDoc/PIC16LF15356-75-76-85-86-Data%20Sheet-40001866B.pdf; Description_: 16KW FLASH, 2048B SRAM, DIP-40
pins: 1 VPP/MCLR/RE3, 2 RA0, 3 RA1, 4 RA2, 5 RA3, 6 RA4, 7 RA5, 8 RE0, 9 RE1, 10 RE2, 11 VDD, 12 VSS, 13 RA7, 14 RA6, 15 RC0, 16 RC1, 17 RC2, 18 RC3, 19 RD0, 20 RD1, 21 RD2, 22 RD3, 23 RC4, 24 RC5, 25 RC6, 26 RC7, 27 RD4, 28 RD5, 29 RD6, 30 RD7, 31 VSS, 32 VDD, 33 RB0, 34 RB1, 35 RB2, 36 RB3, 37 RB4, 38 RB5, 39 RB6/ICSPCLK, 40 RB7/ICSPDAT

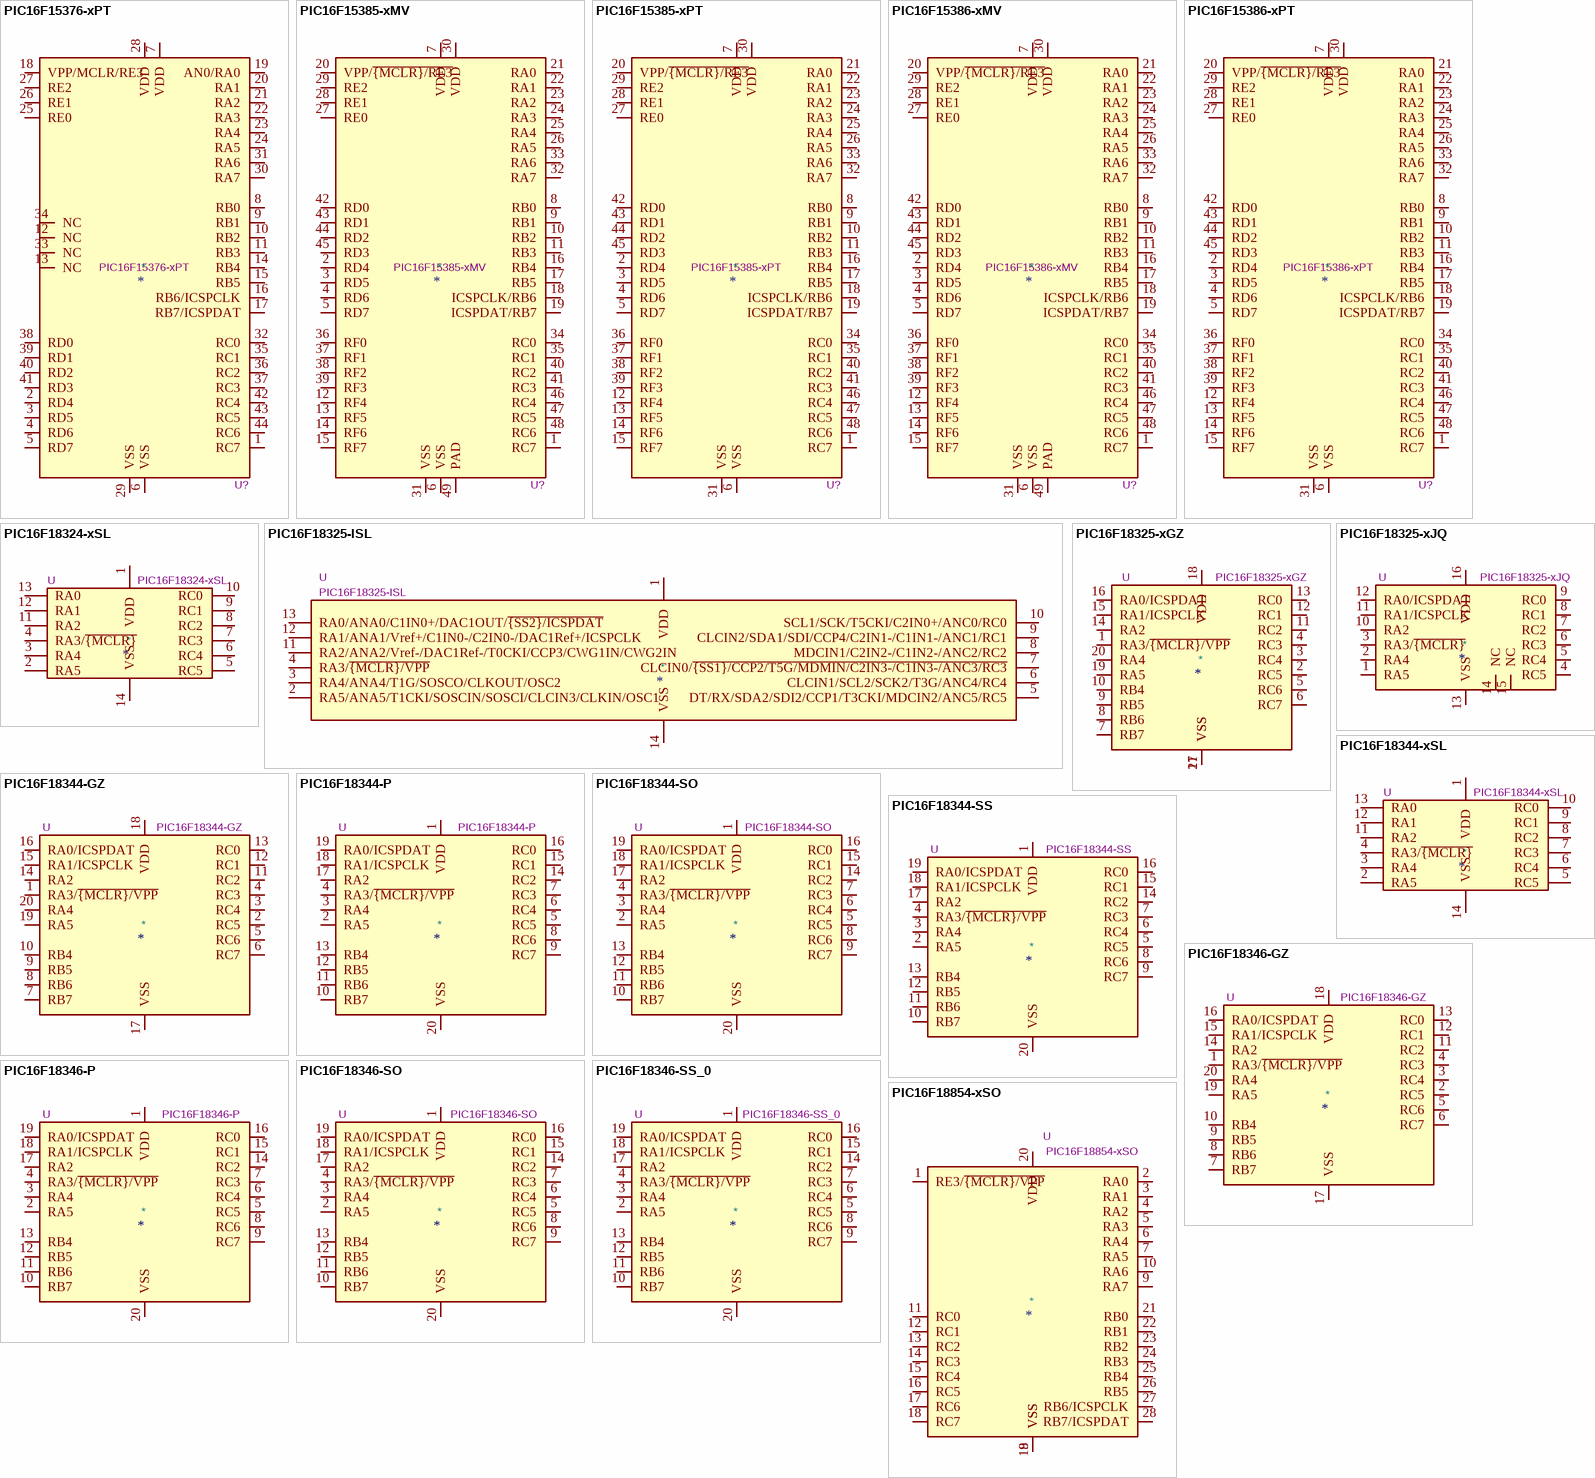
[diagram p15: symbols PIC16F15376-xPT to PIC16F18854-xSO]

## PIC16F15376-xPT
designator *  value PIC16F15376-xPT  Reference: U?
16KW FLASH, 2048B SRAM, TQFP-44(10x10mm); ki_keywords: FLASH-Based 8-Bit CMOS Microcontroller Low Power; ki_fp_filters: TQFP*10x10mm*; Footprint: Package_QFP:TQFP-44_10x10mm_P0.8mm; Datasheet: http://ww1.microchip.com/downloads/en/DeviceDoc/PIC16LF15356-75-76-85-86-Data%20Sheet-40001866B.pdf; Description_: 16KW FLASH, 2048B SRAM, TQFP-44(10x10mm)
pins: 1 RC7, 2 RD4, 3 RD5, 4 RD6, 5 RD7, 6 VSS, 7 VDD, 8 RB0, 9 RB1, 10 RB2, 11 RB3, 12 NC, 13 NC, 14 RB4, 15 RB5, 16 RB6/ICSPCLK, 17 RB7/ICSPDAT, 18 VPP/MCLR/RE3, 19 AN0/RA0, 20 RA1, 21 RA2, 22 RA3, 23 RA4, 24 RA5, 25 RE0, 26 RE1, 27 RE2, 28 VDD, 29 VSS, 30 RA7, 31 RA6, 32 RC0, 33 NC, 34 NC, 35 RC1, 36 RC2, 37 RC3, 38 RD0, 39 RD1, 40 RD2, 41 RD3, 42 RC4, 43 RC5, 44 RC6

## PIC16F15385-xMV
designator *  value PIC16F15385-xMV  Reference: U?
8KW FLASH, 1024B SRAM, QFN-48(6x6mm); ki_keywords: FLASH-Based 8-Bit CMOS Microcontroller Low Power; ki_fp_filters: QFN*6x6mm*; Footprint: Package_DFN_QFN:QFN-48-1EP_6x6mm_P0.4mm_EP4.6x4.6mm; Datasheet: http://ww1.microchip.com/downloads/en/DeviceDoc/PIC16LF15356-75-76-85-86-Data%20Sheet-40001866B.pdf; Description_: 8KW FLASH, 1024B SRAM, QFN-48(6x6mm)
pins: 1 RC7, 2 RD4, 3 RD5, 4 RD6, 5 RD7, 6 VSS, 7 VDD, 8 RB0, 9 RB1, 10 RB2, 11 RB3, 12 RF4, 13 RF5, 14 RF6, 15 RF7, 16 RB4, 17 RB5, 18 ICSPCLK/RB6, 19 ICSPDAT/RB7, 20 VPP/~{{MCLR}/RE3}, 21 RA0, 22 RA1, 23 RA2, 24 RA3, 25 RA4, 26 RA5, 27 RE0, 28 RE1, 29 RE2, 30 VDD, 31 VSS, 32 RA7, 33 RA6, 34 RC0, 35 RC1, 36 RF0, 37 RF1, 38 RF2, 39 RF3, 40 RC2, 41 RC3, 42 RD0, 43 RD1, 44 RD2, 45 RD3, 46 RC4, 47 RC5, 48 RC6, 49 PAD

## PIC16F15385-xPT
designator *  value PIC16F15385-xPT  Reference: U?
8KW FLASH, 1024B SRAM, TQFP-48(7x7mm); ki_keywords: FLASH-Based 8-Bit CMOS Microcontroller Low Power; ki_fp_filters: TQFP*7x7mm*; Footprint: Package_QFP:TQFP-48_7x7mm_P0.5mm; Datasheet: http://ww1.microchip.com/downloads/en/DeviceDoc/PIC16LF15356-75-76-85-86-Data%20Sheet-40001866B.pdf; Description_: 8KW FLASH, 1024B SRAM, TQFP-48(7x7mm)
pins: 1 RC7, 2 RD4, 3 RD5, 4 RD6, 5 RD7, 6 VSS, 7 VDD, 8 RB0, 9 RB1, 10 RB2, 11 RB3, 12 RF4, 13 RF5, 14 RF6, 15 RF7, 16 RB4, 17 RB5, 18 ICSPCLK/RB6, 19 ICSPDAT/RB7, 20 VPP/~{{MCLR}/RE3}, 21 RA0, 22 RA1, 23 RA2, 24 RA3, 25 RA4, 26 RA5, 27 RE0, 28 RE1, 29 RE2, 30 VDD, 31 VSS, 32 RA7, 33 RA6, 34 RC0, 35 RC1, 36 RF0, 37 RF1, 38 RF2, 39 RF3, 40 RC2, 41 RC3, 42 RD0, 43 RD1, 44 RD2, 45 RD3, 46 RC4, 47 RC5, 48 RC6

## PIC16F15386-xMV
designator *  value PIC16F15386-xMV  Reference: U?
16KW FLASH, 2048B SRAM, QFN-48(6x6mm); ki_keywords: FLASH-Based 8-Bit CMOS Microcontroller Low Power; ki_fp_filters: QFN*6x6mm*; Footprint: Package_DFN_QFN:QFN-48-1EP_6x6mm_P0.4mm_EP4.6x4.6mm; Datasheet: http://ww1.microchip.com/downloads/en/DeviceDoc/PIC16LF15356-75-76-85-86-Data%20Sheet-40001866B.pdf; Description_: 16KW FLASH, 2048B SRAM, QFN-48(6x6mm)
pins: 1 RC7, 2 RD4, 3 RD5, 4 RD6, 5 RD7, 6 VSS, 7 VDD, 8 RB0, 9 RB1, 10 RB2, 11 RB3, 12 RF4, 13 RF5, 14 RF6, 15 RF7, 16 RB4, 17 RB5, 18 ICSPCLK/RB6, 19 ICSPDAT/RB7, 20 VPP/~{{MCLR}/RE3}, 21 RA0, 22 RA1, 23 RA2, 24 RA3, 25 RA4, 26 RA5, 27 RE0, 28 RE1, 29 RE2, 30 VDD, 31 VSS, 32 RA7, 33 RA6, 34 RC0, 35 RC1, 36 RF0, 37 RF1, 38 RF2, 39 RF3, 40 RC2, 41 RC3, 42 RD0, 43 RD1, 44 RD2, 45 RD3, 46 RC4, 47 RC5, 48 RC6, 49 PAD

## PIC16F15386-xPT
designator *  value PIC16F15386-xPT  Reference: U?
16KW FLASH, 2048B SRAM, TQFP-48(7x7mm); ki_keywords: FLASH-Based 8-Bit CMOS Microcontroller Low Power; ki_fp_filters: TQFP*7x7mm*; Footprint: Package_QFP:TQFP-48_7x7mm_P0.5mm; Datasheet: http://ww1.microchip.com/downloads/en/DeviceDoc/PIC16LF15356-75-76-85-86-Data%20Sheet-40001866B.pdf; Description_: 16KW FLASH, 2048B SRAM, TQFP-48(7x7mm)
pins: 1 RC7, 2 RD4, 3 RD5, 4 RD6, 5 RD7, 6 VSS, 7 VDD, 8 RB0, 9 RB1, 10 RB2, 11 RB3, 12 RF4, 13 RF5, 14 RF6, 15 RF7, 16 RB4, 17 RB5, 18 ICSPCLK/RB6, 19 ICSPDAT/RB7, 20 VPP/~{{MCLR}/RE3}, 21 RA0, 22 RA1, 23 RA2, 24 RA3, 25 RA4, 26 RA5, 27 RE0, 28 RE1, 29 RE2, 30 VDD, 31 VSS, 32 RA7, 33 RA6, 34 RC0, 35 RC1, 36 RF0, 37 RF1, 38 RF2, 39 RF3, 40 RC2, 41 RC3, 42 RD0, 43 RD1, 44 RD2, 45 RD3, 46 RC4, 47 RC5, 48 RC6

## PIC16F18324-xSL
designator *  value PIC16F18324-xSL  Reference: U
PIC16F18324, 4096W FLASH, 512B SRAM, 256B EEPROM, SOIC14; ki_keywords: FLASH-Based 8-Bit CMOS Microcontroller Low Power; ki_fp_filters: SOIC*3.9x8.7mm*P1.27mm*; Footprint: Package_SO:SOIC-14_3.9x8.7mm_P1.27mm; Datasheet: http://ww1.microchip.com/downloads/en/devicedoc/40001800c.pdf; Description_: PIC16F18324, 4096W FLASH, 512B SRAM, 256B EEPROM, SOIC14
pins: 1 VDD, 2 RA5, 3 RA4, 4 RA3/~{{MCLR}}, 5 RC5, 6 RC4, 7 RC3, 8 RC2, 9 RC1, 10 RC0, 11 RA2, 12 RA1, 13 RA0, 14 VSS

## PIC16F18325-ISL
designator *  value PIC16F18325-ISL  Reference: U
PIC16F18325, 8192W FLASH, 1024B SRAM, SOIC14; ki_keywords: FLASH-Based 8-Bit CMOS Microcontroller Low Power; ki_fp_filters: SOIC*3.9x8.7mm*P1.27mm*; Footprint: Package_SO:SOIC-14_3.9x8.7mm_P1.27mm; Datasheet: http://ww1.microchip.com/downloads/en/devicedoc/40001795b.pdf; Description_: PIC16F18325, 8192W FLASH, 1024B SRAM, SOIC14
pins: 1 VDD, 2 RA5/ANA5/T1CKI/SOSCIN/SOSCI/CLCIN3/CLKIN/OSC1, 3 RA4/ANA4/T1G/SOSCO/CLKOUT/OSC2, 4 RA3/~{{MCLR}/VPP}, 5 DT/RX/SDA2/SDI2/CCP1/T3CKI/MDCIN2/ANC5/RC5, 6 CLCIN1/SCL2/SCK2/T3G/ANC4/RC4, 7 CLCIN0/~{{SS1}/CCP2/T5G/MDMIN/C2IN3-/C1IN3-/ANC3/RC3}, 8 MDCIN1/C2IN2-/C1IN2-/ANC2/RC2, 9 CLCIN2/SDA1/SDI/CCP4/C2IN1-/C1IN1-/ANC1/RC1, 10 SCL1/SCK/T5CKI/C2IN0+/ANC0/RC0, 11 RA2/ANA2/Vref-/DAC1Ref-/T0CKI/CCP3/CWG1IN/CWG2IN, 12 RA1/ANA1/Vref+/C1IN0-/C2IN0-/DAC1Ref+/ICSPCLK, 13 RA0/ANA0/C1IN0+/DAC1OUT/~{{SS2}/ICSPDAT}, 14 VSS

## PIC16F18325-xGZ
designator *  value PIC16F18325-xGZ  Reference: U
8192W FLASH, 1024B SRAM, 256B EEPROM, QFN-20; ki_keywords: FLASH-Based 8-Bit CMOS Microcontroller Low Power; ki_fp_filters: UQFN*1EP*4x4mm*P0.5mm*; Footprint: Package_DFN_QFN:UQFN-20-1EP_4x4mm_P0.5mm_EP2.8x2.8mm; Datasheet: http://ww1.microchip.com/downloads/en/DeviceDoc/40001795E.pdf; Description_: 8192W FLASH, 1024B SRAM, 256B EEPROM, QFN-20
pins: 1 RA3/~{{MCLR}/VPP}, 2 RC5, 3 RC4, 4 RC3, 5 RC6, 6 RC7, 7 RB7, 8 RB6, 9 RB5, 10 RB4, 11 RC2, 12 RC1, 13 RC0, 14 RA2, 15 RA1/ICSPCLK, 16 RA0/ICSPDAT, 17 VSS, 18 VDD, 19 RA5, 20 RA4, 21 VSS